# Altium integrated library Altera FLEX 10K.IntLib: 292 symbols (part 6 of 37)
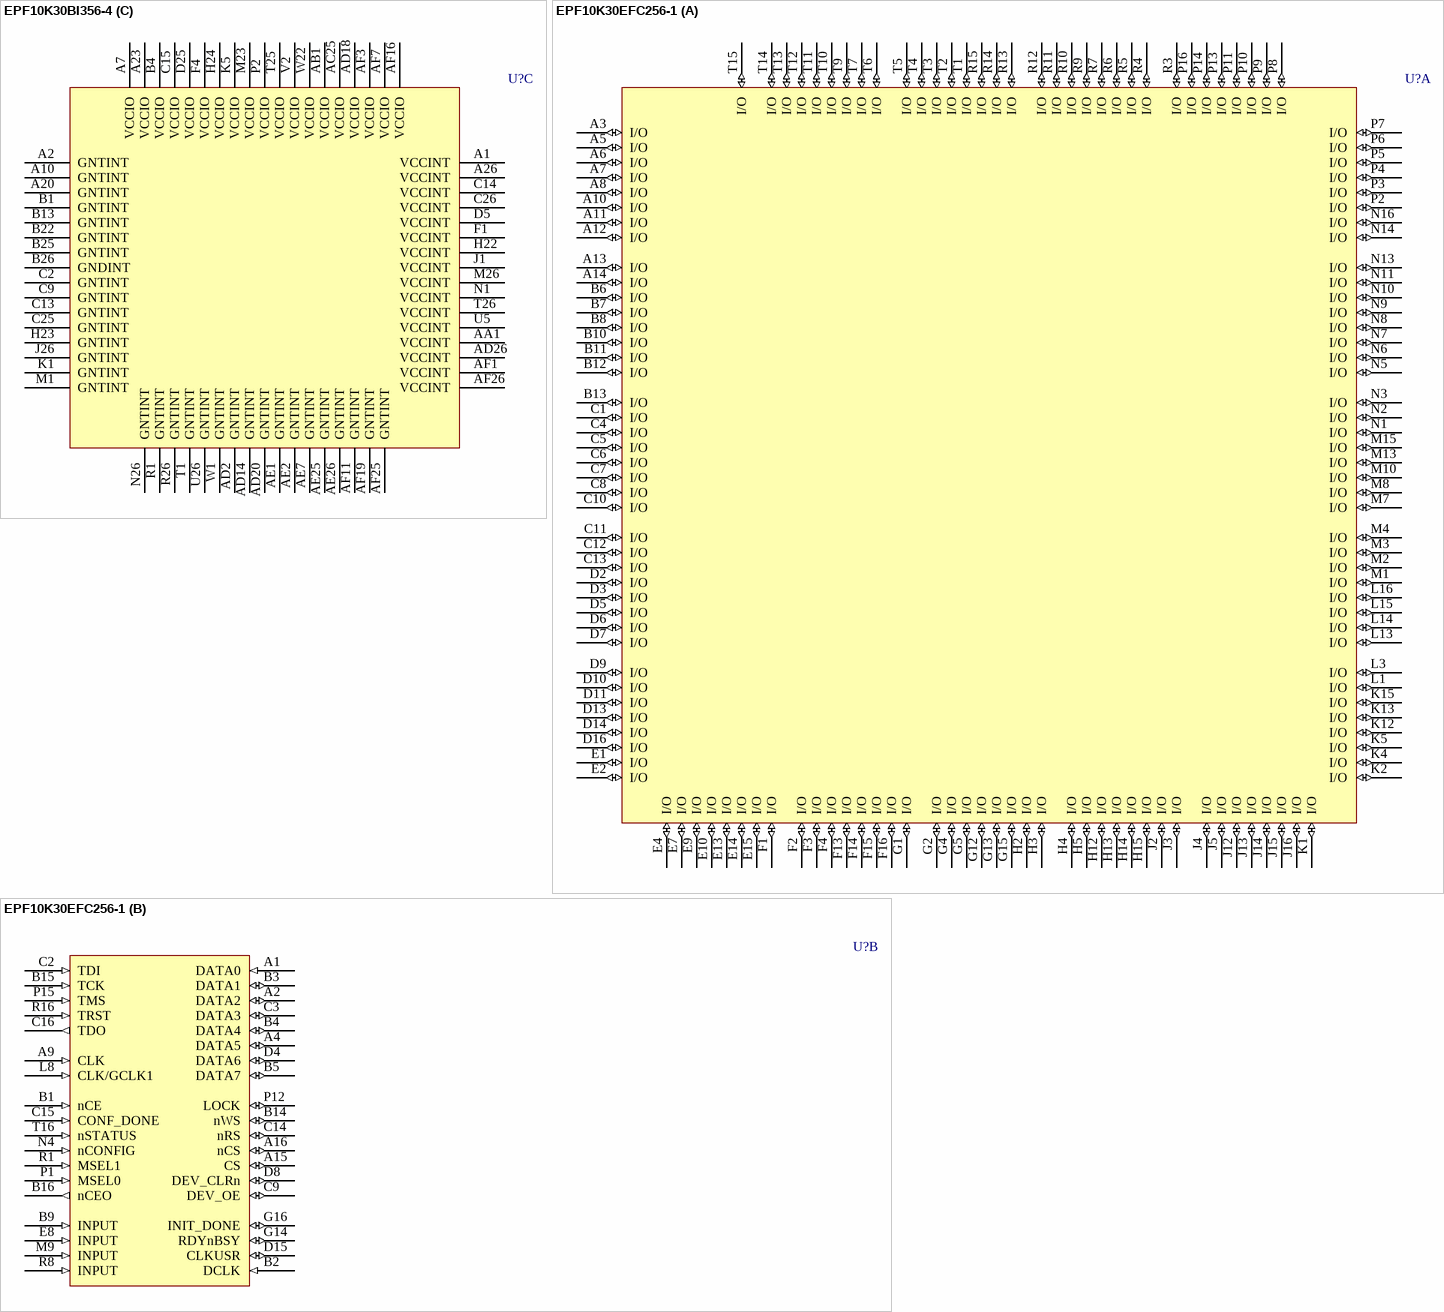
[diagram p404: symbols EPF10K30BI356-4 to EPF10K30EFC256-1]

## EPF10K30BI356-4
designator U?
FLEX EPF10K30 5.0V Embedded PLD, 246 User IO Pins, 356-Pin BGA, Speed Grade 4, Industrial Grade; Published: 24-Nov-2000; LatestRevisionDate: 13-Apr-2006; LatestRevisionNote: IPC-7351 Footprint Added.; DatasheetVersion: Jun-1996; PackageVersion: ver14.2, Oct-2005; PackageReference: BGA356; Publisher: Altium Limited; PackageDescription: 356-Ball Ball Grid Array (BGA356); Code_JEDEC: MO-192-BAR-2; ComponentLink1Description: Manufacturer Link; ComponentLink1URL: http://www.altera.com/products/devices/flex10k/f10-index.html; ComponentLink2Description: Datasheet; ComponentLink2URL: http://www.altera.com/literature/ds/dsf10k.pdf
footprint BGA356 (BGA, 356-Leads, Body 35x35mm, Pitch 1.27mm)
3D model EPF10K30-BGA356 (356-Ball Ball Grid Array (BGA356))
part A pins: A13 IN (in), A14 CLK (in), AA24 CLKUSR (io), AC2 nCE (in), AC3 TDI (in), AC5 DCLK (in), AC22 nCEO (out), AC23 TDO (out), AC24 CONF_DONE (in), AC26 NC, AD3 DATA0 (in), AD4 DATA1 (io), AD5 DATA2 (io), AD6 DATA4 (io), AD8 DATA6 (io), AD13 DEV_CLRn (io), AD23 CS (io), AD24 nCS (io), AD25 TCK (in), AE5 DATA5 (io), AE13 IN (in), AE14 DEV_OE (io), AE23 nRS (io), AE24 nWS (io), AF2 DATA3 (io), AF4 DATA7 (io), AF13 CLK (in), AF14 IN (in), B14 IN (in), C1 NC, D1 NC, D2 nCONFIG (in), D3 MSEL1 (in), D4 MSEL0 (in), D22 TMS (in), D23 TRST (in), D24 nSTATUS (in), D26 NC, E1 NC, E2 NC, G1 NC, G5 NC, G23 NC, G26 NC, H1 NC, H25 NC, H26 NC, J25 NC, K25 NC, P24 NC, R24 NC, T23 NC, T24 INIT_DONE (io), U22 RDYnBUSY (io), U25 NC, V1 NC, V3 NC, V4 NC, V26 NC, W2 NC, W3 NC, Y1 NC, Y2 NC, Y23 NC
part B pins: A3 I/O (io), A4 I/O (io), A5 I/O (io), A6 I/O (io), A8 I/O (io), A9 I/O (io), A11 I/O (io), A12 I/O (io), A15 I/O (io), A16 I/O (io), A17 I/O (io), A18 I/O (io), A19 I/O (io), A21 I/O (io), A22 I/O (io), A24 I/O (io), A25 I/O (io), AA2 I/O (io), AA3 I/O (io), AA4 I/O (io), AA5 I/O (io), AA22 I/O (io), AA23 I/O (io), AA25 I/O (io), AA26 I/O (io), AB2 I/O (io), AB3 I/O (io), AB4 I/O (io), AB5 I/O (io), AB22 I/O (io), AB23 I/O (io), AB24 I/O (io), AB25 I/O (io), AB26 I/O (io), AC1 I/O (io), AC4 I/O (io), AD1 I/O (io), AD7 I/O (io), AD9 I/O (io), AD10 I/O (io), AD11 I/O (io), AD12 I/O (io), AD15 I/O (io), AD16 I/O (io), AD17 I/O (io), AD19 I/O (io), AD21 I/O (io), AD22 I/O (io), AE3 I/O (io), AE4 I/O (io), AE6 I/O (io), AE8 I/O (io), AE9 I/O (io), AE10 I/O (io), AE11 I/O (io), AE12 I/O (io), AE15 I/O (io), AE16 I/O (io), AE17 I/O (io), AE18 I/O (io), AE19 I/O (io), AE20 I/O (io), AE21 I/O (io), AE22 I/O (io), AF5 I/O (io), AF6 I/O (io), AF8 I/O (io), AF9 I/O (io), AF10 I/O (io), AF12 I/O (io), AF15 I/O (io), AF17 I/O (io), AF18 I/O (io), AF20 I/O (io), AF21 I/O (io), AF22 I/O (io), AF23 I/O (io), AF24 I/O (io), B2 I/O (io), B3 I/O (io), B5 I/O (io), B6 I/O (io), B7 I/O (io), B8 I/O (io), B9 I/O (io), B10 I/O (io), B11 I/O (io), B12 I/O (io), B15 I/O (io), B16 I/O (io), B17 I/O (io), B18 I/O (io), B19 I/O (io), B20 I/O (io), B21 I/O (io), B23 I/O (io), B24 I/O (io), C3 I/O (io), C4 I/O (io), C5 I/O (io), C6 I/O (io), C7 I/O (io), C8 I/O (io), C10 I/O (io), C11 I/O (io), C12 I/O (io), C16 I/O (io), C17 I/O (io), C18 I/O (io), C19 I/O (io), C20 I/O (io), C21 I/O (io), C22 I/O (io), C23 I/O (io), C24 I/O (io), E3 I/O (io), E4 I/O (io), E5 I/O (io), E22 I/O (io), E23 I/O (io), E24 I/O (io), E25 I/O (io), E26 I/O (io), F2 I/O (io), F3 I/O (io), F5 I/O (io), F22 I/O (io), F23 I/O (io), F24 I/O (io), F25 I/O (io), F26 I/O (io), G2 I/O (io), G3 I/O (io), G4 I/O (io), G22 I/O (io), G24 I/O (io), G25 I/O (io), H2 I/O (io), H3 I/O (io), H4 I/O (io), H5 I/O (io), J2 I/O (io), J3 I/O (io), J4 I/O (io), J5 I/O (io), J22 I/O (io), J23 I/O (io), J24 I/O (io), K2 I/O (io), K3 I/O (io), K4 I/O (io), K22 I/O (io), K23 I/O (io), K24 I/O (io), K26 I/O (io), L1 I/O (io), L2 I/O (io), L3 I/O (io), L4 I/O (io), L5 I/O (io), L22 I/O (io), L23 I/O (io), L24 I/O (io), L25 I/O (io), L26 I/O (io), M2 I/O (io), M3 I/O (io), M4 I/O (io), M5 I/O (io), M22 I/O (io), M24 I/O (io), M25 I/O (io), N2 I/O (io), N3 I/O (io), N4 I/O (io), N5 I/O (io), N22 I/O (io), N23 I/O (io), N24 I/O (io), N25 I/O (io), P1 I/O (io), P3 I/O (io), P4 I/O (io), P5 I/O (io), P22 I/O (io), P23 I/O (io), P25 I/O (io), P26 I/O (io), R2 I/O (io), R3 I/O (io), R4 I/O (io), R5 I/O (io), R22 I/O (io), R23 I/O (io), R25 I/O (io), T2 I/O (io), T3 I/O (io), T4 I/O (io), T5 I/O (io), T22 I/O (io), U1 I/O (io), U2 I/O (io), U3 I/O (io), U4 I/O (io), U23 I/O (io), U24 I/O (io), V5 I/O (io), V22 I/O (io), V23 I/O (io), V24 I/O (io), V25 I/O (io), W4 I/O (io), W5 I/O (io), W23 I/O (io), W24 I/O (io), W25 I/O (io), W26 I/O (io), Y3 I/O (io), Y4 I/O (io), Y5 I/O (io), Y22 I/O (io), Y24 I/O (io), Y25 I/O (io), Y26 I/O (io)
part C pins: A1 VCCINT (power), A2 GNTINT (power), A7 VCCIO (power), A10 GNTINT (power), A20 GNTINT (power), A23 VCCIO (power), A26 VCCINT (power), AA1 VCCINT (power), AB1 VCCIO (power), AC25 VCCIO (power), AD2 GNTINT (power), AD14 GNTINT (power), AD18 VCCIO (power), AD20 GNTINT (power), AD26 VCCINT (power), AE1 GNTINT (power), AE2 GNTINT (power), AE7 GNTINT (power), AE25 GNTINT (power), AE26 GNTINT (power), AF1 VCCINT (power), AF3 VCCIO (power), AF7 VCCIO (power), AF11 GNTINT (power), AF16 VCCIO (power), AF19 GNTINT (power), AF25 GNTINT (power), AF26 VCCINT (power), B1 GNTINT (power), B4 VCCIO (power), B13 GNTINT (power), B22 GNTINT (power), B25 GNTINT (power), B26 GNDINT (power), C2 GNTINT (power), C9 GNTINT (power), C13 GNTINT (power), C14 VCCINT (power), C15 VCCIO (power), C25 GNTINT (power), C26 VCCINT (power), D5 VCCINT (power), D25 VCCIO (power), F1 VCCINT (power), F4 VCCIO (power), H22 VCCINT (power), H23 GNTINT (power), H24 VCCIO (power), J1 VCCINT (power), J26 GNTINT (power), K1 GNTINT (power), K5 VCCIO (power), M1 GNTINT (power), M23 VCCIO (power), M26 VCCINT (power), N1 VCCINT (power), N26 GNTINT (power), P2 VCCIO (power), R1 GNTINT (power), R26 GNTINT (power), T1 GNTINT (power), T25 VCCIO (power), T26 VCCINT (power), U5 VCCINT (power), U26 GNTINT (power), V2 VCCIO (power), W1 GNTINT (power), W22 VCCIO (power)

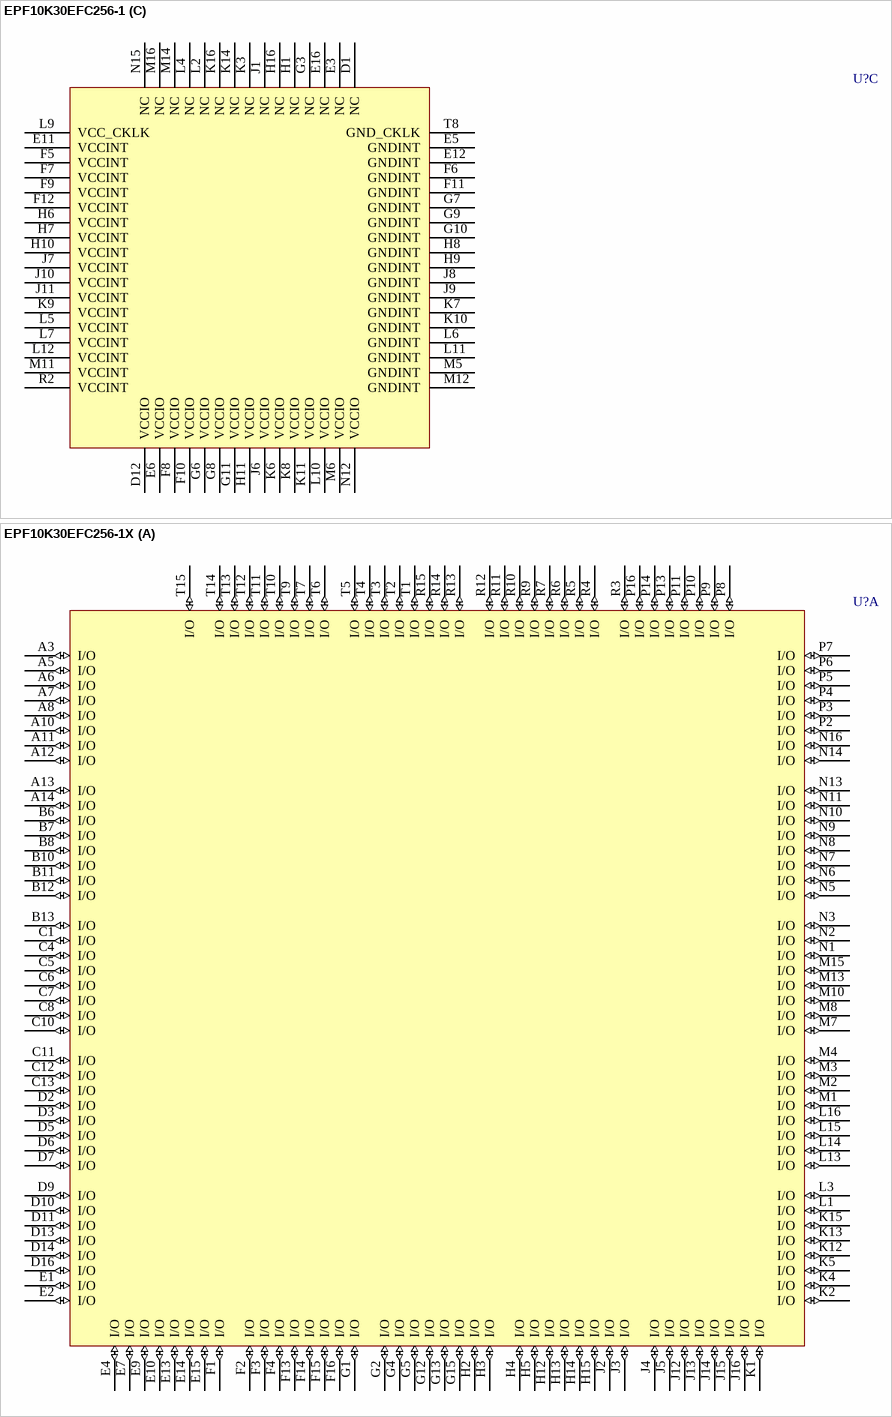
[diagram p53: symbols EPF10K30EFC256-1 to EPF10K30EFC256-1X]

## EPF10K30EFC256-1
designator U?
FLEX EPF10K30E 2.5V Embedded PLD, 176 User IO Pins, 256-Pin FBGA, Speed Grade 1, Commercial Grade; Published: 17-Jul-2002; LatestRevisionDate: 13-Apr-2006; LatestRevisionNote: IPC-7351 Footprint Added.; DatasheetVersion: ver2.5, Jan-2003; PackageVersion: ver16.0, Dec-2009; PackageReference: FBGA256; Publisher: Altium Limited; PackageDescription: 256-Ball FineLine Ball Grid Array (FBGA256) - Option 1 - Wire Bond; Code_JEDEC: MS-034-AAF-1; Code_IPC: BGA100P16X16-256; ComponentLink1Description: Manufacturer Link; ComponentLink1URL: http://www.altera.com/products/devices/flex10k/f10-index.html; ComponentLink2Description: Datasheet; ComponentLink2URL: http://www.altera.com/literature/ds/dsf10ke.pdf
footprint FBGA256 (BGA, 256-Leads, Body 17x17mm, Pitch 1mm)
3D model EPF10K30E-FBGA256 (256-Ball FineLine Ball Grid Array (FBGA256) - Option 1 - Wire Bond)
part A pins: A3 I/O (io), A5 I/O (io), A6 I/O (io), A7 I/O (io), A8 I/O (io), A10 I/O (io), A11 I/O (io), A12 I/O (io), A13 I/O (io), A14 I/O (io), B6 I/O (io), B7 I/O (io), B8 I/O (io), B10 I/O (io), B11 I/O (io), B12 I/O (io), B13 I/O (io), C1 I/O (io), C4 I/O (io), C5 I/O (io), C6 I/O (io), C7 I/O (io), C8 I/O (io), C10 I/O (io), C11 I/O (io), C12 I/O (io), C13 I/O (io), D2 I/O (io), D3 I/O (io), D5 I/O (io), D6 I/O (io), D7 I/O (io), D9 I/O (io), D10 I/O (io), D11 I/O (io), D13 I/O (io), D14 I/O (io), D16 I/O (io), E1 I/O (io), E2 I/O (io), E4 I/O (io), E7 I/O (io), E9 I/O (io), E10 I/O (io), E13 I/O (io), E14 I/O (io), E15 I/O (io), F1 I/O (io), F2 I/O (io), F3 I/O (io), F4 I/O (io), F13 I/O (io), F14 I/O (io), F15 I/O (io), F16 I/O (io), G1 I/O (io), G2 I/O (io), G4 I/O (io), G5 I/O (io), G12 I/O (io), G13 I/O (io), G15 I/O (io), H2 I/O (io), H3 I/O (io), H4 I/O (io), H5 I/O (io), H12 I/O (io), H13 I/O (io), H14 I/O (io), H15 I/O (io), J2 I/O (io), J3 I/O (io), J4 I/O (io), J5 I/O (io), J12 I/O (io), J13 I/O (io), J14 I/O (io), J15 I/O (io), J16 I/O (io), K1 I/O (io), K2 I/O (io), K4 I/O (io), K5 I/O (io), K12 I/O (io), K13 I/O (io), K15 I/O (io), L1 I/O (io), L3 I/O (io), L13 I/O (io), L14 I/O (io), L15 I/O (io), L16 I/O (io), M1 I/O (io), M2 I/O (io), M3 I/O (io), M4 I/O (io), M7 I/O (io), M8 I/O (io), M10 I/O (io), M13 I/O (io), M15 I/O (io), N1 I/O (io), N2 I/O (io), N3 I/O (io), N5 I/O (io), N6 I/O (io), N7 I/O (io), N8 I/O (io), N9 I/O (io), N10 I/O (io), N11 I/O (io), N13 I/O (io), N14 I/O (io), N16 I/O (io), P2 I/O (io), P3 I/O (io), P4 I/O (io), P5 I/O (io), P6 I/O (io), P7 I/O (io), P8 I/O (io), P9 I/O (io), P10 I/O (io), P11 I/O (io), P13 I/O (io), P14 I/O (io), P16 I/O (io), R3 I/O (io), R4 I/O (io), R5 I/O (io), R6 I/O (io), R7 I/O (io), R9 I/O (io), R10 I/O (io), R11 I/O (io), R12 I/O (io), R13 I/O (io), R14 I/O (io), R15 I/O (io), T1 I/O (io), T2 I/O (io), T3 I/O (io), T4 I/O (io), T5 I/O (io), T6 I/O (io), T7 I/O (io), T9 I/O (io), T10 I/O (io), T11 I/O (io), T12 I/O (io), T13 I/O (io), T14 I/O (io), T15 I/O (io)
part B pins: A1 DATA0 (in), A2 DATA2 (io), A4 DATA5 (io), A9 CLK (in), A15 CS (io), A16 nCS (io), B1 nCE (in), B2 DCLK (in), B3 DATA1 (io), B4 DATA4 (io), B5 DATA7 (io), B9 INPUT (in), B14 nWS (io), B15 TCK (in), B16 nCEO (out), C2 TDI (in), C3 DATA3 (io), C9 DEV_OE (io), C14 nRS (io), C15 CONF_DONE (in), C16 TDO (out), D4 DATA6 (io), D8 DEV_CLRn (io), D15 CLKUSR (io), E8 INPUT (in), G14 RDYnBSY (io), G16 INIT_DONE (io), L8 CLK/GCLK1 (in), M9 INPUT (in), N4 nCONFIG (in), P1 MSEL0 (in), P12 LOCK (io), P15 TMS (in), R1 MSEL1 (in), R8 INPUT (in), R16 TRST (in), T16 nSTATUS (in)
part C pins: D1 NC, D12 VCCIO (power), E3 NC, E5 GNDINT (power), E6 VCCIO (power), E11 VCCINT (power), E12 GNDINT (power), E16 NC, F5 VCCINT (power), F6 GNDINT (power), F7 VCCINT (power), F8 VCCIO (power), F9 VCCINT (power), F10 VCCIO (power), F11 GNDINT (power), F12 VCCINT (power), G3 NC, G6 VCCIO (power), G7 GNDINT (power), G8 VCCIO (power), G9 GNDINT (power), G10 GNDINT (power), G11 VCCIO (power), H1 NC, H6 VCCINT (power), H7 VCCINT (power), H8 GNDINT (power), H9 GNDINT (power), H10 VCCINT (power), H11 VCCIO (power), H16 NC, J1 NC, J6 VCCIO (power), J7 VCCINT (power), J8 GNDINT (power), J9 GNDINT (power), J10 VCCINT (power), J11 VCCINT (power), K3 NC, K6 VCCIO (power), K7 GNDINT (power), K8 VCCIO (power), K9 VCCINT (power), K10 GNDINT (power), K11 VCCIO (power), K14 NC, K16 NC, L2 NC, L4 NC, L5 VCCINT (power), L6 GNDINT (power), L7 VCCINT (power), L9 VCC_CKLK (power), L10 VCCIO (power), L11 GNDINT (power), L12 VCCINT (power), M5 GNDINT (power), M6 VCCIO (power), M11 VCCINT (power), M12 GNDINT (power), M14 NC, M16 NC, N12 VCCIO (power), N15 NC, R2 VCCINT (power), T8 GND_CKLK (power)

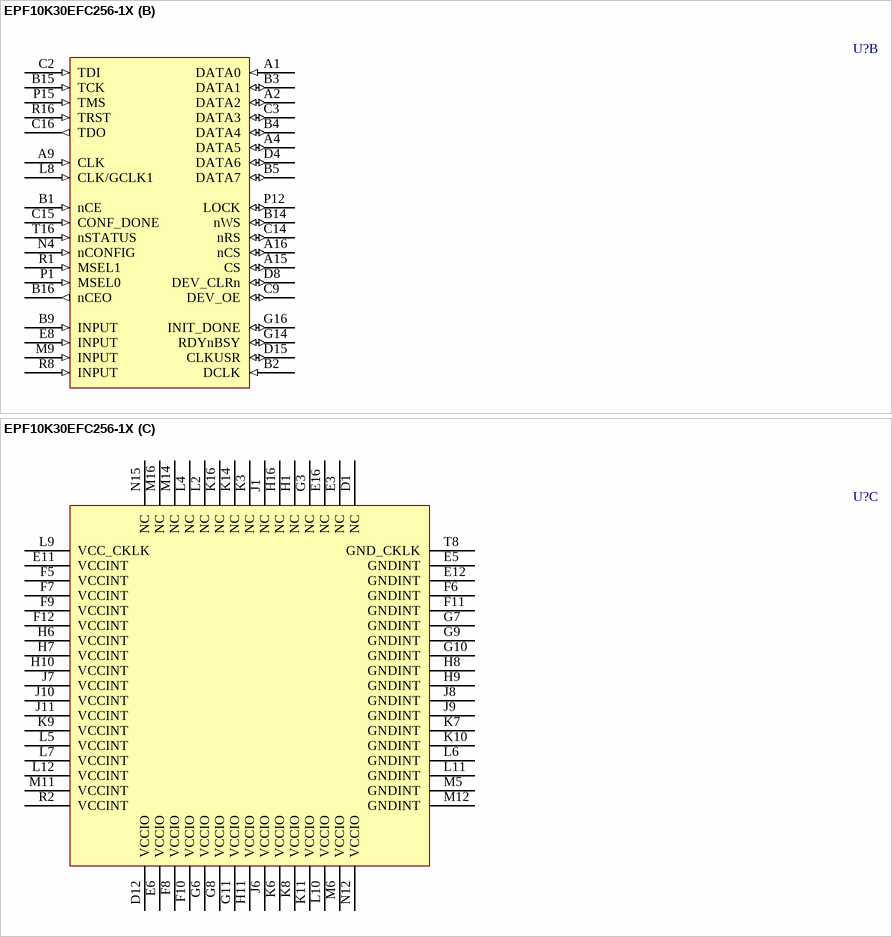
[diagram p54: symbol EPF10K30EFC256-1X]

## EPF10K30EFC256-1X
designator U?
FLEX EPF10K30E 2.5V Embedded PLD, 176 User IO Pins, 256-Pin FBGA, Speed Grade 1, Commercial Grade; Published: 17-Jul-2002; LatestRevisionDate: 13-Apr-2006; LatestRevisionNote: IPC-7351 Footprint Added.; DatasheetVersion: ver2.5, Jan-2003; PackageVersion: ver16.0, Dec-2009; PackageReference: FBGA256; Publisher: Altium Limited; PackageDescription: 256-Ball FineLine Ball Grid Array (FBGA256) - Option 1 - Wire Bond; Code_JEDEC: MS-034-AAF-1; Code_IPC: BGA100P16X16-256; ComponentLink1Description: Manufacturer Link; ComponentLink1URL: http://www.altera.com/products/devices/flex10k/f10-index.html; ComponentLink2Description: Datasheet; ComponentLink2URL: http://www.altera.com/literature/ds/dsf10ke.pdf
footprint FBGA256 (BGA, 256-Leads, Body 17x17mm, Pitch 1mm)
3D model EPF10K30E-FBGA256 (256-Ball FineLine Ball Grid Array (FBGA256) - Option 1 - Wire Bond)
part A pins: A3 I/O (io), A5 I/O (io), A6 I/O (io), A7 I/O (io), A8 I/O (io), A10 I/O (io), A11 I/O (io), A12 I/O (io), A13 I/O (io), A14 I/O (io), B6 I/O (io), B7 I/O (io), B8 I/O (io), B10 I/O (io), B11 I/O (io), B12 I/O (io), B13 I/O (io), C1 I/O (io), C4 I/O (io), C5 I/O (io), C6 I/O (io), C7 I/O (io), C8 I/O (io), C10 I/O (io), C11 I/O (io), C12 I/O (io), C13 I/O (io), D2 I/O (io), D3 I/O (io), D5 I/O (io), D6 I/O (io), D7 I/O (io), D9 I/O (io), D10 I/O (io), D11 I/O (io), D13 I/O (io), D14 I/O (io), D16 I/O (io), E1 I/O (io), E2 I/O (io), E4 I/O (io), E7 I/O (io), E9 I/O (io), E10 I/O (io), E13 I/O (io), E14 I/O (io), E15 I/O (io), F1 I/O (io), F2 I/O (io), F3 I/O (io), F4 I/O (io), F13 I/O (io), F14 I/O (io), F15 I/O (io), F16 I/O (io), G1 I/O (io), G2 I/O (io), G4 I/O (io), G5 I/O (io), G12 I/O (io), G13 I/O (io), G15 I/O (io), H2 I/O (io), H3 I/O (io), H4 I/O (io), H5 I/O (io), H12 I/O (io), H13 I/O (io), H14 I/O (io), H15 I/O (io), J2 I/O (io), J3 I/O (io), J4 I/O (io), J5 I/O (io), J12 I/O (io), J13 I/O (io), J14 I/O (io), J15 I/O (io), J16 I/O (io), K1 I/O (io), K2 I/O (io), K4 I/O (io), K5 I/O (io), K12 I/O (io), K13 I/O (io), K15 I/O (io), L1 I/O (io), L3 I/O (io), L13 I/O (io), L14 I/O (io), L15 I/O (io), L16 I/O (io), M1 I/O (io), M2 I/O (io), M3 I/O (io), M4 I/O (io), M7 I/O (io), M8 I/O (io), M10 I/O (io), M13 I/O (io), M15 I/O (io), N1 I/O (io), N2 I/O (io), N3 I/O (io), N5 I/O (io), N6 I/O (io), N7 I/O (io), N8 I/O (io), N9 I/O (io), N10 I/O (io), N11 I/O (io), N13 I/O (io), N14 I/O (io), N16 I/O (io), P2 I/O (io), P3 I/O (io), P4 I/O (io), P5 I/O (io), P6 I/O (io), P7 I/O (io), P8 I/O (io), P9 I/O (io), P10 I/O (io), P11 I/O (io), P13 I/O (io), P14 I/O (io), P16 I/O (io), R3 I/O (io), R4 I/O (io), R5 I/O (io), R6 I/O (io), R7 I/O (io), R9 I/O (io), R10 I/O (io), R11 I/O (io), R12 I/O (io), R13 I/O (io), R14 I/O (io), R15 I/O (io), T1 I/O (io), T2 I/O (io), T3 I/O (io), T4 I/O (io), T5 I/O (io), T6 I/O (io), T7 I/O (io), T9 I/O (io), T10 I/O (io), T11 I/O (io), T12 I/O (io), T13 I/O (io), T14 I/O (io), T15 I/O (io)
part B pins: A1 DATA0 (in), A2 DATA2 (io), A4 DATA5 (io), A9 CLK (in), A15 CS (io), A16 nCS (io), B1 nCE (in), B2 DCLK (in), B3 DATA1 (io), B4 DATA4 (io), B5 DATA7 (io), B9 INPUT (in), B14 nWS (io), B15 TCK (in), B16 nCEO (out), C2 TDI (in), C3 DATA3 (io), C9 DEV_OE (io), C14 nRS (io), C15 CONF_DONE (in), C16 TDO (out), D4 DATA6 (io), D8 DEV_CLRn (io), D15 CLKUSR (io), E8 INPUT (in), G14 RDYnBSY (io), G16 INIT_DONE (io), L8 CLK/GCLK1 (in), M9 INPUT (in), N4 nCONFIG (in), P1 MSEL0 (in), P12 LOCK (io), P15 TMS (in), R1 MSEL1 (in), R8 INPUT (in), R16 TRST (in), T16 nSTATUS (in)
part C pins: D1 NC, D12 VCCIO (power), E3 NC, E5 GNDINT (power), E6 VCCIO (power), E11 VCCINT (power), E12 GNDINT (power), E16 NC, F5 VCCINT (power), F6 GNDINT (power), F7 VCCINT (power), F8 VCCIO (power), F9 VCCINT (power), F10 VCCIO (power), F11 GNDINT (power), F12 VCCINT (power), G3 NC, G6 VCCIO (power), G7 GNDINT (power), G8 VCCIO (power), G9 GNDINT (power), G10 GNDINT (power), G11 VCCIO (power), H1 NC, H6 VCCINT (power), H7 VCCINT (power), H8 GNDINT (power), H9 GNDINT (power), H10 VCCINT (power), H11 VCCIO (power), H16 NC, J1 NC, J6 VCCIO (power), J7 VCCINT (power), J8 GNDINT (power), J9 GNDINT (power), J10 VCCINT (power), J11 VCCINT (power), K3 NC, K6 VCCIO (power), K7 GNDINT (power), K8 VCCIO (power), K9 VCCINT (power), K10 GNDINT (power), K11 VCCIO (power), K14 NC, K16 NC, L2 NC, L4 NC, L5 VCCINT (power), L6 GNDINT (power), L7 VCCINT (power), L9 VCC_CKLK (power), L10 VCCIO (power), L11 GNDINT (power), L12 VCCINT (power), M5 GNDINT (power), M6 VCCIO (power), M11 VCCINT (power), M12 GNDINT (power), M14 NC, M16 NC, N12 VCCIO (power), N15 NC, R2 VCCINT (power), T8 GND_CKLK (power)

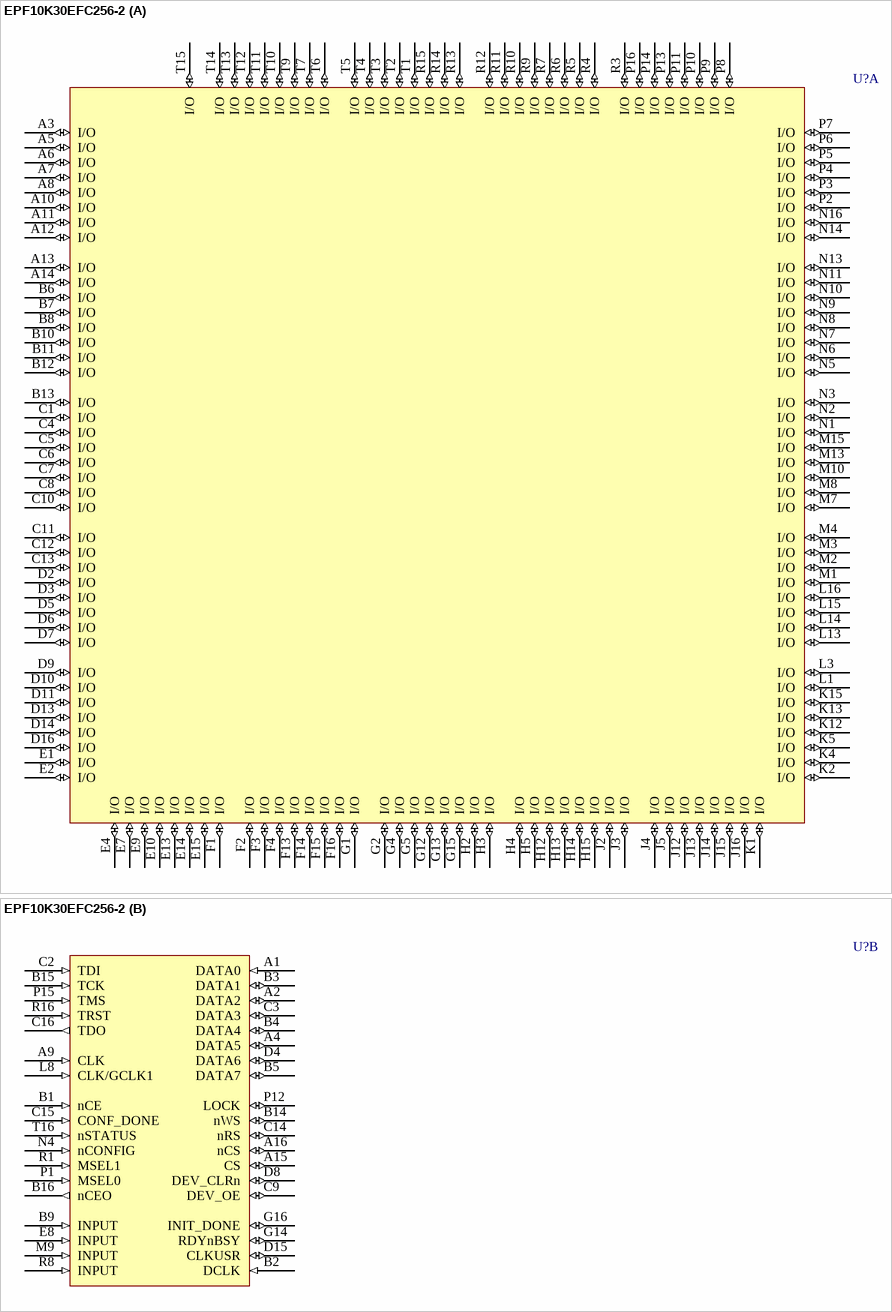
[diagram p55: symbol EPF10K30EFC256-2]

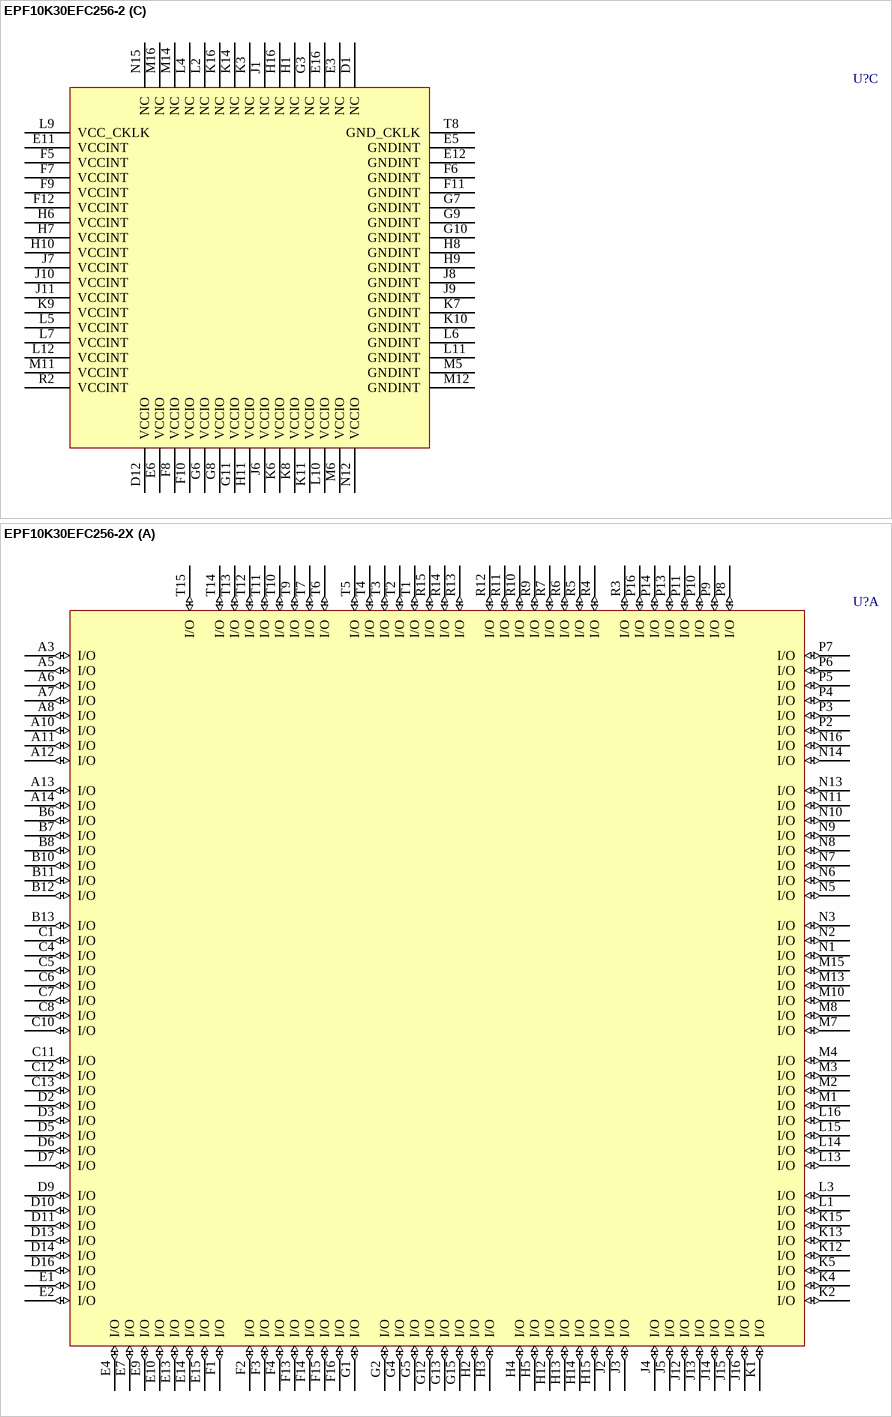
[diagram p56: symbols EPF10K30EFC256-2 to EPF10K30EFC256-2X]

## EPF10K30EFC256-2
designator U?
FLEX EPF10K30E 2.5V Embedded PLD, 176 User IO Pins, 256-Pin FBGA, Speed Grade 2, Commercial Grade; Published: 17-Jul-2002; LatestRevisionDate: 13-Apr-2006; LatestRevisionNote: IPC-7351 Footprint Added.; DatasheetVersion: ver2.5, Jan-2003; PackageVersion: ver16.0, Dec-2009; PackageReference: FBGA256; Publisher: Altium Limited; PackageDescription: 256-Ball FineLine Ball Grid Array (FBGA256) - Option 1 - Wire Bond; Code_JEDEC: MS-034-AAF-1; Code_IPC: BGA100P16X16-256; ComponentLink1Description: Manufacturer Link; ComponentLink1URL: http://www.altera.com/products/devices/flex10k/f10-index.html; ComponentLink2Description: Datasheet; ComponentLink2URL: http://www.altera.com/literature/ds/dsf10ke.pdf
footprint FBGA256 (BGA, 256-Leads, Body 17x17mm, Pitch 1mm)
3D model EPF10K30E-FBGA256 (256-Ball FineLine Ball Grid Array (FBGA256) - Option 1 - Wire Bond)
part A pins: A3 I/O (io), A5 I/O (io), A6 I/O (io), A7 I/O (io), A8 I/O (io), A10 I/O (io), A11 I/O (io), A12 I/O (io), A13 I/O (io), A14 I/O (io), B6 I/O (io), B7 I/O (io), B8 I/O (io), B10 I/O (io), B11 I/O (io), B12 I/O (io), B13 I/O (io), C1 I/O (io), C4 I/O (io), C5 I/O (io), C6 I/O (io), C7 I/O (io), C8 I/O (io), C10 I/O (io), C11 I/O (io), C12 I/O (io), C13 I/O (io), D2 I/O (io), D3 I/O (io), D5 I/O (io), D6 I/O (io), D7 I/O (io), D9 I/O (io), D10 I/O (io), D11 I/O (io), D13 I/O (io), D14 I/O (io), D16 I/O (io), E1 I/O (io), E2 I/O (io), E4 I/O (io), E7 I/O (io), E9 I/O (io), E10 I/O (io), E13 I/O (io), E14 I/O (io), E15 I/O (io), F1 I/O (io), F2 I/O (io), F3 I/O (io), F4 I/O (io), F13 I/O (io), F14 I/O (io), F15 I/O (io), F16 I/O (io), G1 I/O (io), G2 I/O (io), G4 I/O (io), G5 I/O (io), G12 I/O (io), G13 I/O (io), G15 I/O (io), H2 I/O (io), H3 I/O (io), H4 I/O (io), H5 I/O (io), H12 I/O (io), H13 I/O (io), H14 I/O (io), H15 I/O (io), J2 I/O (io), J3 I/O (io), J4 I/O (io), J5 I/O (io), J12 I/O (io), J13 I/O (io), J14 I/O (io), J15 I/O (io), J16 I/O (io), K1 I/O (io), K2 I/O (io), K4 I/O (io), K5 I/O (io), K12 I/O (io), K13 I/O (io), K15 I/O (io), L1 I/O (io), L3 I/O (io), L13 I/O (io), L14 I/O (io), L15 I/O (io), L16 I/O (io), M1 I/O (io), M2 I/O (io), M3 I/O (io), M4 I/O (io), M7 I/O (io), M8 I/O (io), M10 I/O (io), M13 I/O (io), M15 I/O (io), N1 I/O (io), N2 I/O (io), N3 I/O (io), N5 I/O (io), N6 I/O (io), N7 I/O (io), N8 I/O (io), N9 I/O (io), N10 I/O (io), N11 I/O (io), N13 I/O (io), N14 I/O (io), N16 I/O (io), P2 I/O (io), P3 I/O (io), P4 I/O (io), P5 I/O (io), P6 I/O (io), P7 I/O (io), P8 I/O (io), P9 I/O (io), P10 I/O (io), P11 I/O (io), P13 I/O (io), P14 I/O (io), P16 I/O (io), R3 I/O (io), R4 I/O (io), R5 I/O (io), R6 I/O (io), R7 I/O (io), R9 I/O (io), R10 I/O (io), R11 I/O (io), R12 I/O (io), R13 I/O (io), R14 I/O (io), R15 I/O (io), T1 I/O (io), T2 I/O (io), T3 I/O (io), T4 I/O (io), T5 I/O (io), T6 I/O (io), T7 I/O (io), T9 I/O (io), T10 I/O (io), T11 I/O (io), T12 I/O (io), T13 I/O (io), T14 I/O (io), T15 I/O (io)
part B pins: A1 DATA0 (in), A2 DATA2 (io), A4 DATA5 (io), A9 CLK (in), A15 CS (io), A16 nCS (io), B1 nCE (in), B2 DCLK (in), B3 DATA1 (io), B4 DATA4 (io), B5 DATA7 (io), B9 INPUT (in), B14 nWS (io), B15 TCK (in), B16 nCEO (out), C2 TDI (in), C3 DATA3 (io), C9 DEV_OE (io), C14 nRS (io), C15 CONF_DONE (in), C16 TDO (out), D4 DATA6 (io), D8 DEV_CLRn (io), D15 CLKUSR (io), E8 INPUT (in), G14 RDYnBSY (io), G16 INIT_DONE (io), L8 CLK/GCLK1 (in), M9 INPUT (in), N4 nCONFIG (in), P1 MSEL0 (in), P12 LOCK (io), P15 TMS (in), R1 MSEL1 (in), R8 INPUT (in), R16 TRST (in), T16 nSTATUS (in)
part C pins: D1 NC, D12 VCCIO (power), E3 NC, E5 GNDINT (power), E6 VCCIO (power), E11 VCCINT (power), E12 GNDINT (power), E16 NC, F5 VCCINT (power), F6 GNDINT (power), F7 VCCINT (power), F8 VCCIO (power), F9 VCCINT (power), F10 VCCIO (power), F11 GNDINT (power), F12 VCCINT (power), G3 NC, G6 VCCIO (power), G7 GNDINT (power), G8 VCCIO (power), G9 GNDINT (power), G10 GNDINT (power), G11 VCCIO (power), H1 NC, H6 VCCINT (power), H7 VCCINT (power), H8 GNDINT (power), H9 GNDINT (power), H10 VCCINT (power), H11 VCCIO (power), H16 NC, J1 NC, J6 VCCIO (power), J7 VCCINT (power), J8 GNDINT (power), J9 GNDINT (power), J10 VCCINT (power), J11 VCCINT (power), K3 NC, K6 VCCIO (power), K7 GNDINT (power), K8 VCCIO (power), K9 VCCINT (power), K10 GNDINT (power), K11 VCCIO (power), K14 NC, K16 NC, L2 NC, L4 NC, L5 VCCINT (power), L6 GNDINT (power), L7 VCCINT (power), L9 VCC_CKLK (power), L10 VCCIO (power), L11 GNDINT (power), L12 VCCINT (power), M5 GNDINT (power), M6 VCCIO (power), M11 VCCINT (power), M12 GNDINT (power), M14 NC, M16 NC, N12 VCCIO (power), N15 NC, R2 VCCINT (power), T8 GND_CKLK (power)

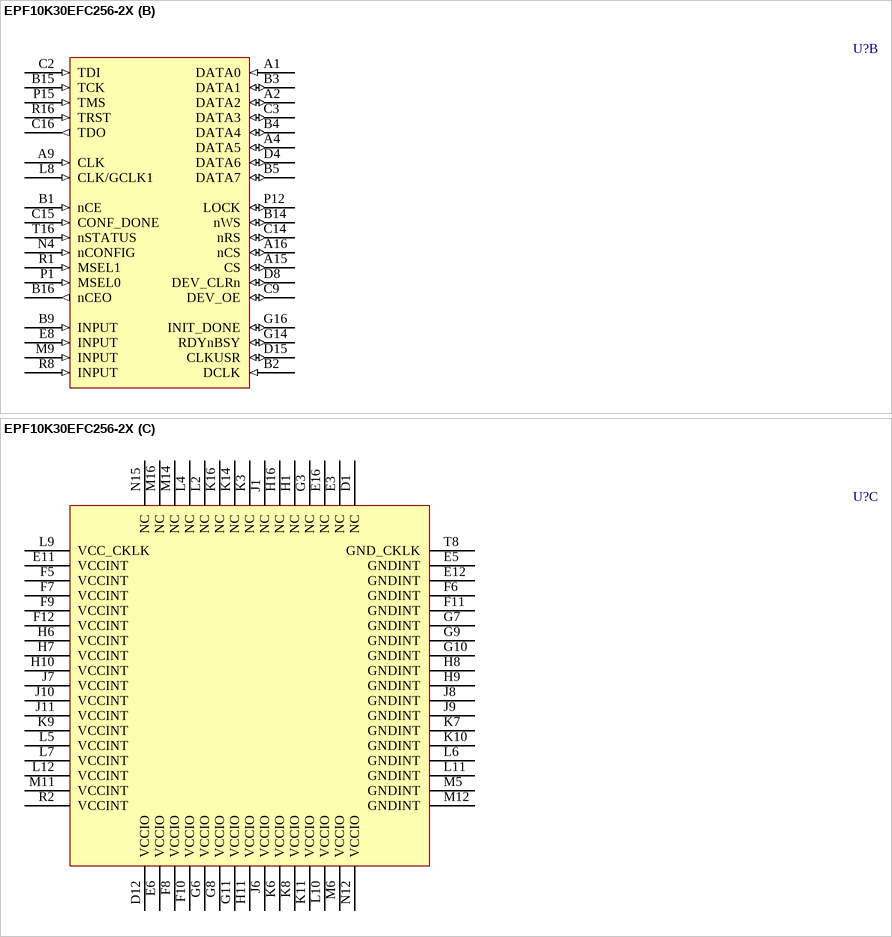
[diagram p57: symbol EPF10K30EFC256-2X]

## EPF10K30EFC256-2X
designator U?
FLEX EPF10K30E 2.5V Embedded PLD, 176 User IO Pins, 256-Pin FBGA, Speed Grade 2, Commercial Grade; Published: 17-Jul-2002; LatestRevisionDate: 13-Apr-2006; LatestRevisionNote: IPC-7351 Footprint Added.; DatasheetVersion: ver2.5, Jan-2003; PackageVersion: ver16.0, Dec-2009; PackageReference: FBGA256; Publisher: Altium Limited; PackageDescription: 256-Ball FineLine Ball Grid Array (FBGA256) - Option 1 - Wire Bond; Code_JEDEC: MS-034-AAF-1; Code_IPC: BGA100P16X16-256; ComponentLink1Description: Manufacturer Link; ComponentLink1URL: http://www.altera.com/products/devices/flex10k/f10-index.html; ComponentLink2Description: Datasheet; ComponentLink2URL: http://www.altera.com/literature/ds/dsf10ke.pdf
footprint FBGA256 (BGA, 256-Leads, Body 17x17mm, Pitch 1mm)
3D model EPF10K30E-FBGA256 (256-Ball FineLine Ball Grid Array (FBGA256) - Option 1 - Wire Bond)
part A pins: A3 I/O (io), A5 I/O (io), A6 I/O (io), A7 I/O (io), A8 I/O (io), A10 I/O (io), A11 I/O (io), A12 I/O (io), A13 I/O (io), A14 I/O (io), B6 I/O (io), B7 I/O (io), B8 I/O (io), B10 I/O (io), B11 I/O (io), B12 I/O (io), B13 I/O (io), C1 I/O (io), C4 I/O (io), C5 I/O (io), C6 I/O (io), C7 I/O (io), C8 I/O (io), C10 I/O (io), C11 I/O (io), C12 I/O (io), C13 I/O (io), D2 I/O (io), D3 I/O (io), D5 I/O (io), D6 I/O (io), D7 I/O (io), D9 I/O (io), D10 I/O (io), D11 I/O (io), D13 I/O (io), D14 I/O (io), D16 I/O (io), E1 I/O (io), E2 I/O (io), E4 I/O (io), E7 I/O (io), E9 I/O (io), E10 I/O (io), E13 I/O (io), E14 I/O (io), E15 I/O (io), F1 I/O (io), F2 I/O (io), F3 I/O (io), F4 I/O (io), F13 I/O (io), F14 I/O (io), F15 I/O (io), F16 I/O (io), G1 I/O (io), G2 I/O (io), G4 I/O (io), G5 I/O (io), G12 I/O (io), G13 I/O (io), G15 I/O (io), H2 I/O (io), H3 I/O (io), H4 I/O (io), H5 I/O (io), H12 I/O (io), H13 I/O (io), H14 I/O (io), H15 I/O (io), J2 I/O (io), J3 I/O (io), J4 I/O (io), J5 I/O (io), J12 I/O (io), J13 I/O (io), J14 I/O (io), J15 I/O (io), J16 I/O (io), K1 I/O (io), K2 I/O (io), K4 I/O (io), K5 I/O (io), K12 I/O (io), K13 I/O (io), K15 I/O (io), L1 I/O (io), L3 I/O (io), L13 I/O (io), L14 I/O (io), L15 I/O (io), L16 I/O (io), M1 I/O (io), M2 I/O (io), M3 I/O (io), M4 I/O (io), M7 I/O (io), M8 I/O (io), M10 I/O (io), M13 I/O (io), M15 I/O (io), N1 I/O (io), N2 I/O (io), N3 I/O (io), N5 I/O (io), N6 I/O (io), N7 I/O (io), N8 I/O (io), N9 I/O (io), N10 I/O (io), N11 I/O (io), N13 I/O (io), N14 I/O (io), N16 I/O (io), P2 I/O (io), P3 I/O (io), P4 I/O (io), P5 I/O (io), P6 I/O (io), P7 I/O (io), P8 I/O (io), P9 I/O (io), P10 I/O (io), P11 I/O (io), P13 I/O (io), P14 I/O (io), P16 I/O (io), R3 I/O (io), R4 I/O (io), R5 I/O (io), R6 I/O (io), R7 I/O (io), R9 I/O (io), R10 I/O (io), R11 I/O (io), R12 I/O (io), R13 I/O (io), R14 I/O (io), R15 I/O (io), T1 I/O (io), T2 I/O (io), T3 I/O (io), T4 I/O (io), T5 I/O (io), T6 I/O (io), T7 I/O (io), T9 I/O (io), T10 I/O (io), T11 I/O (io), T12 I/O (io), T13 I/O (io), T14 I/O (io), T15 I/O (io)
part B pins: A1 DATA0 (in), A2 DATA2 (io), A4 DATA5 (io), A9 CLK (in), A15 CS (io), A16 nCS (io), B1 nCE (in), B2 DCLK (in), B3 DATA1 (io), B4 DATA4 (io), B5 DATA7 (io), B9 INPUT (in), B14 nWS (io), B15 TCK (in), B16 nCEO (out), C2 TDI (in), C3 DATA3 (io), C9 DEV_OE (io), C14 nRS (io), C15 CONF_DONE (in), C16 TDO (out), D4 DATA6 (io), D8 DEV_CLRn (io), D15 CLKUSR (io), E8 INPUT (in), G14 RDYnBSY (io), G16 INIT_DONE (io), L8 CLK/GCLK1 (in), M9 INPUT (in), N4 nCONFIG (in), P1 MSEL0 (in), P12 LOCK (io), P15 TMS (in), R1 MSEL1 (in), R8 INPUT (in), R16 TRST (in), T16 nSTATUS (in)
part C pins: D1 NC, D12 VCCIO (power), E3 NC, E5 GNDINT (power), E6 VCCIO (power), E11 VCCINT (power), E12 GNDINT (power), E16 NC, F5 VCCINT (power), F6 GNDINT (power), F7 VCCINT (power), F8 VCCIO (power), F9 VCCINT (power), F10 VCCIO (power), F11 GNDINT (power), F12 VCCINT (power), G3 NC, G6 VCCIO (power), G7 GNDINT (power), G8 VCCIO (power), G9 GNDINT (power), G10 GNDINT (power), G11 VCCIO (power), H1 NC, H6 VCCINT (power), H7 VCCINT (power), H8 GNDINT (power), H9 GNDINT (power), H10 VCCINT (power), H11 VCCIO (power), H16 NC, J1 NC, J6 VCCIO (power), J7 VCCINT (power), J8 GNDINT (power), J9 GNDINT (power), J10 VCCINT (power), J11 VCCINT (power), K3 NC, K6 VCCIO (power), K7 GNDINT (power), K8 VCCIO (power), K9 VCCINT (power), K10 GNDINT (power), K11 VCCIO (power), K14 NC, K16 NC, L2 NC, L4 NC, L5 VCCINT (power), L6 GNDINT (power), L7 VCCINT (power), L9 VCC_CKLK (power), L10 VCCIO (power), L11 GNDINT (power), L12 VCCINT (power), M5 GNDINT (power), M6 VCCIO (power), M11 VCCINT (power), M12 GNDINT (power), M14 NC, M16 NC, N12 VCCIO (power), N15 NC, R2 VCCINT (power), T8 GND_CKLK (power)

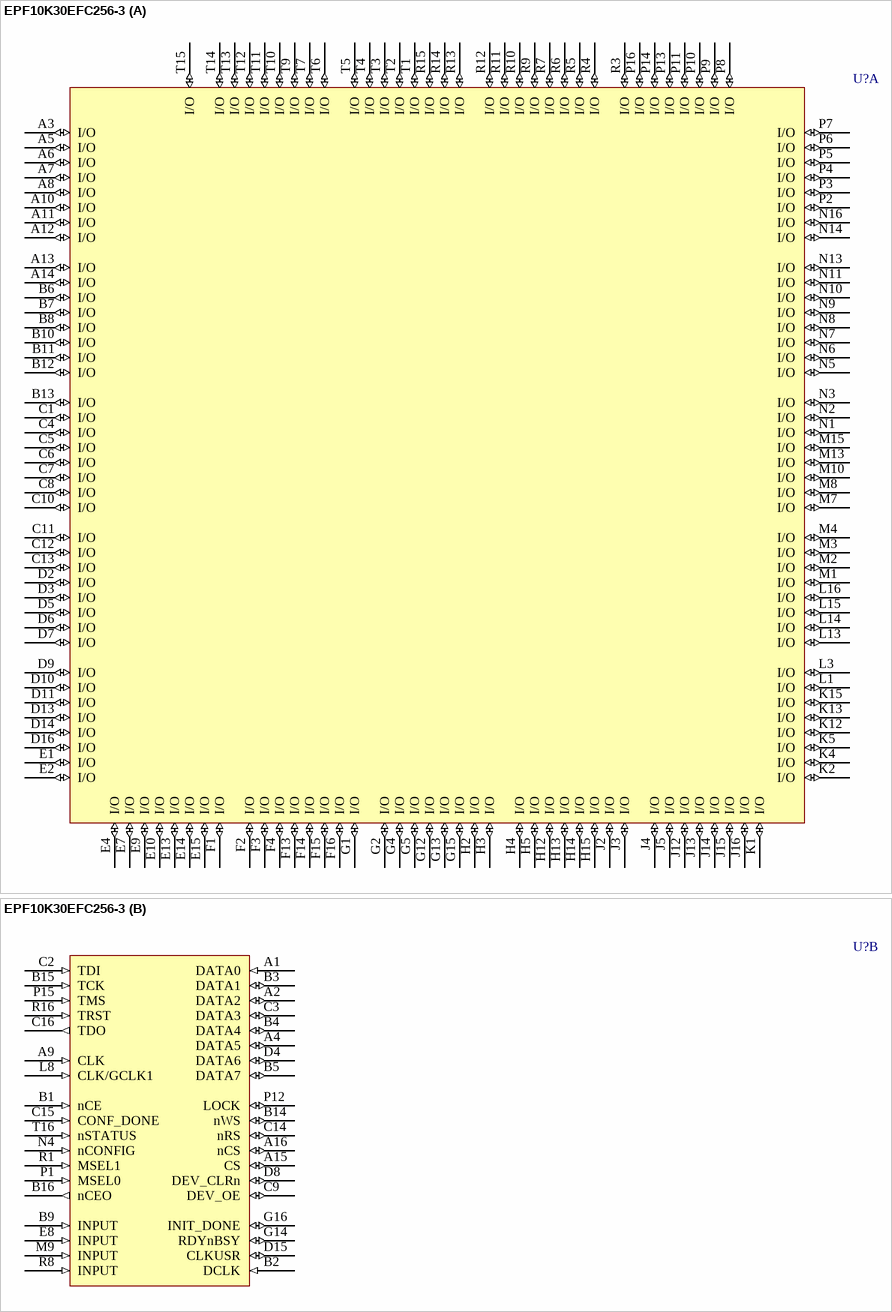
[diagram p58: symbol EPF10K30EFC256-3]

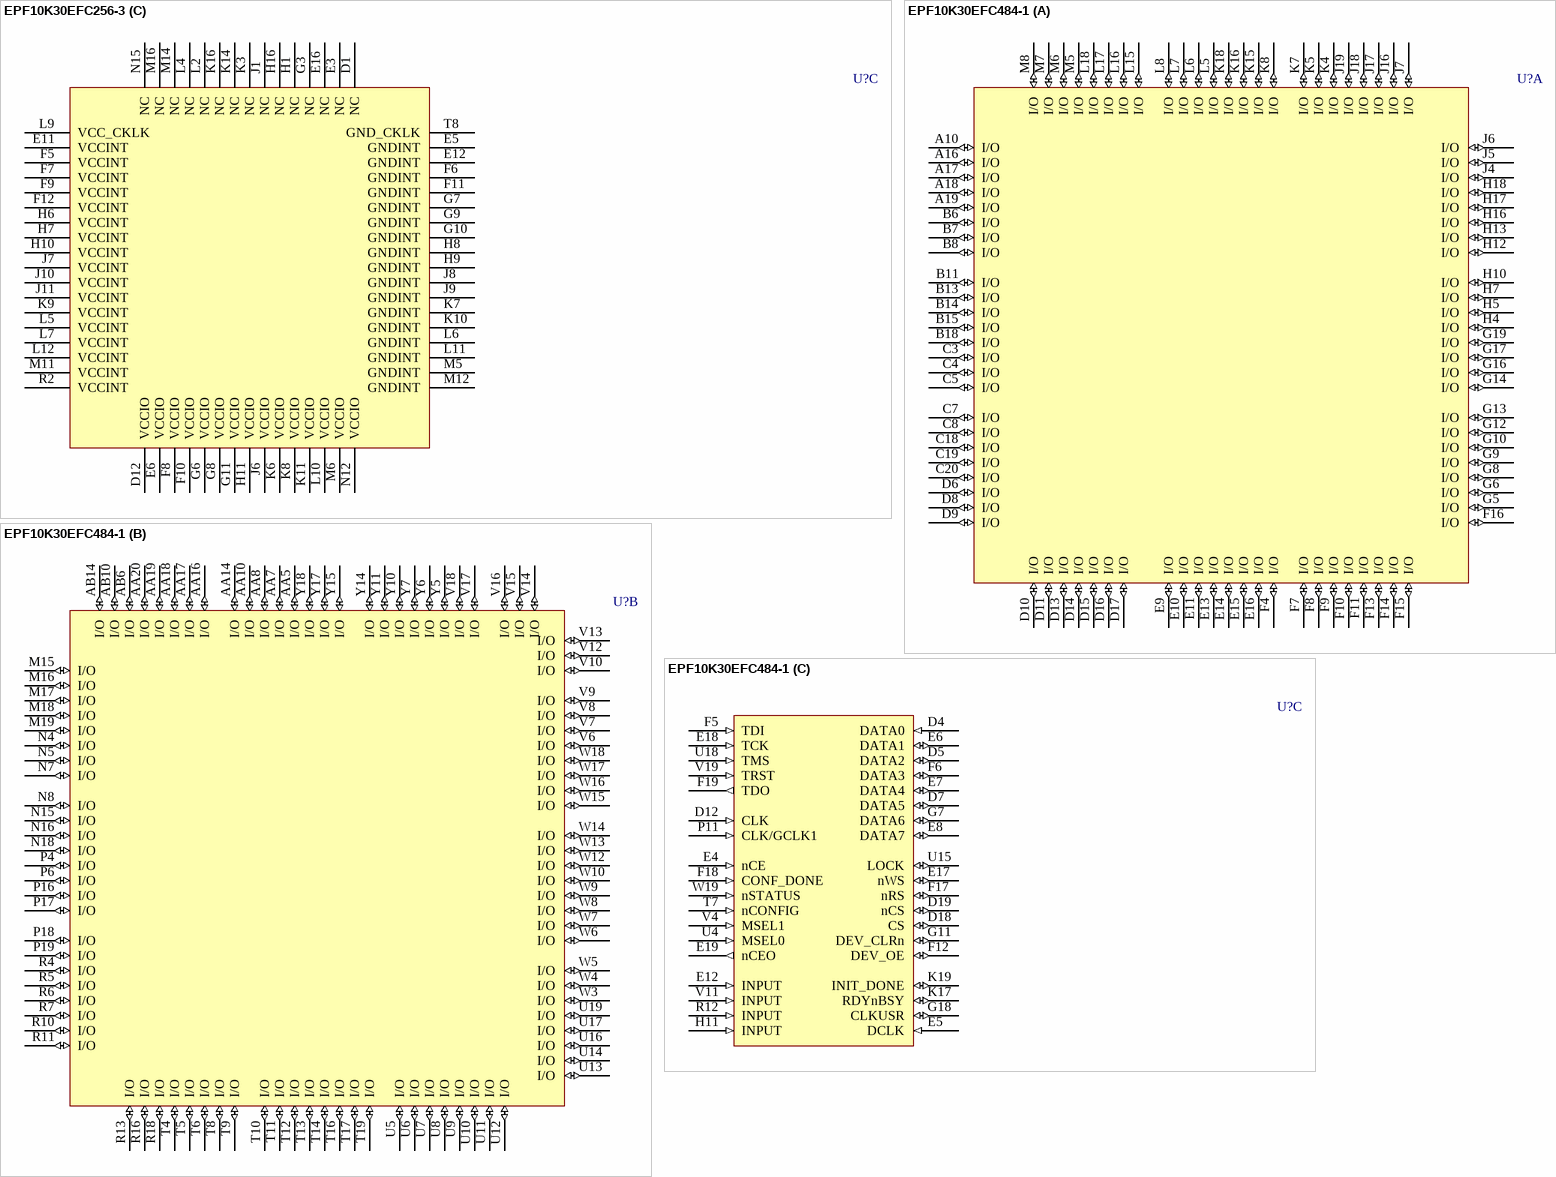
[diagram p59: symbols EPF10K30EFC256-3 to EPF10K30EFC484-1]

## EPF10K30EFC256-3
designator U?
FLEX EPF10K30E 2.5V Embedded PLD, 176 User IO Pins, 256-Pin FBGA, Speed Grade 3, Commercial Grade; Published: 17-Jul-2002; LatestRevisionDate: 13-Apr-2006; LatestRevisionNote: IPC-7351 Footprint Added.; DatasheetVersion: ver2.5, Jan-2003; PackageVersion: ver16.0, Dec-2009; PackageReference: FBGA256; Publisher: Altium Limited; PackageDescription: 256-Ball FineLine Ball Grid Array (FBGA256) - Option 1 - Wire Bond; Supplier 1: Digi-Key; Supplier Part Number 1: 544-2223-ND; Code_JEDEC: MS-034-AAF-1; Code_IPC: BGA100P16X16-256; ComponentLink1Description: Manufacturer Link; ComponentLink1URL: http://www.altera.com/products/devices/flex10k/f10-index.html; ComponentLink2Description: Datasheet; ComponentLink2URL: http://www.altera.com/literature/ds/dsf10ke.pdf
footprint FBGA256 (BGA, 256-Leads, Body 17x17mm, Pitch 1mm)
3D model EPF10K30E-FBGA256 (256-Ball FineLine Ball Grid Array (FBGA256) - Option 1 - Wire Bond)
part A pins: A3 I/O (io), A5 I/O (io), A6 I/O (io), A7 I/O (io), A8 I/O (io), A10 I/O (io), A11 I/O (io), A12 I/O (io), A13 I/O (io), A14 I/O (io), B6 I/O (io), B7 I/O (io), B8 I/O (io), B10 I/O (io), B11 I/O (io), B12 I/O (io), B13 I/O (io), C1 I/O (io), C4 I/O (io), C5 I/O (io), C6 I/O (io), C7 I/O (io), C8 I/O (io), C10 I/O (io), C11 I/O (io), C12 I/O (io), C13 I/O (io), D2 I/O (io), D3 I/O (io), D5 I/O (io), D6 I/O (io), D7 I/O (io), D9 I/O (io), D10 I/O (io), D11 I/O (io), D13 I/O (io), D14 I/O (io), D16 I/O (io), E1 I/O (io), E2 I/O (io), E4 I/O (io), E7 I/O (io), E9 I/O (io), E10 I/O (io), E13 I/O (io), E14 I/O (io), E15 I/O (io), F1 I/O (io), F2 I/O (io), F3 I/O (io), F4 I/O (io), F13 I/O (io), F14 I/O (io), F15 I/O (io), F16 I/O (io), G1 I/O (io), G2 I/O (io), G4 I/O (io), G5 I/O (io), G12 I/O (io), G13 I/O (io), G15 I/O (io), H2 I/O (io), H3 I/O (io), H4 I/O (io), H5 I/O (io), H12 I/O (io), H13 I/O (io), H14 I/O (io), H15 I/O (io), J2 I/O (io), J3 I/O (io), J4 I/O (io), J5 I/O (io), J12 I/O (io), J13 I/O (io), J14 I/O (io), J15 I/O (io), J16 I/O (io), K1 I/O (io), K2 I/O (io), K4 I/O (io), K5 I/O (io), K12 I/O (io), K13 I/O (io), K15 I/O (io), L1 I/O (io), L3 I/O (io), L13 I/O (io), L14 I/O (io), L15 I/O (io), L16 I/O (io), M1 I/O (io), M2 I/O (io), M3 I/O (io), M4 I/O (io), M7 I/O (io), M8 I/O (io), M10 I/O (io), M13 I/O (io), M15 I/O (io), N1 I/O (io), N2 I/O (io), N3 I/O (io), N5 I/O (io), N6 I/O (io), N7 I/O (io), N8 I/O (io), N9 I/O (io), N10 I/O (io), N11 I/O (io), N13 I/O (io), N14 I/O (io), N16 I/O (io), P2 I/O (io), P3 I/O (io), P4 I/O (io), P5 I/O (io), P6 I/O (io), P7 I/O (io), P8 I/O (io), P9 I/O (io), P10 I/O (io), P11 I/O (io), P13 I/O (io), P14 I/O (io), P16 I/O (io), R3 I/O (io), R4 I/O (io), R5 I/O (io), R6 I/O (io), R7 I/O (io), R9 I/O (io), R10 I/O (io), R11 I/O (io), R12 I/O (io), R13 I/O (io), R14 I/O (io), R15 I/O (io), T1 I/O (io), T2 I/O (io), T3 I/O (io), T4 I/O (io), T5 I/O (io), T6 I/O (io), T7 I/O (io), T9 I/O (io), T10 I/O (io), T11 I/O (io), T12 I/O (io), T13 I/O (io), T14 I/O (io), T15 I/O (io)
part B pins: A1 DATA0 (in), A2 DATA2 (io), A4 DATA5 (io), A9 CLK (in), A15 CS (io), A16 nCS (io), B1 nCE (in), B2 DCLK (in), B3 DATA1 (io), B4 DATA4 (io), B5 DATA7 (io), B9 INPUT (in), B14 nWS (io), B15 TCK (in), B16 nCEO (out), C2 TDI (in), C3 DATA3 (io), C9 DEV_OE (io), C14 nRS (io), C15 CONF_DONE (in), C16 TDO (out), D4 DATA6 (io), D8 DEV_CLRn (io), D15 CLKUSR (io), E8 INPUT (in), G14 RDYnBSY (io), G16 INIT_DONE (io), L8 CLK/GCLK1 (in), M9 INPUT (in), N4 nCONFIG (in), P1 MSEL0 (in), P12 LOCK (io), P15 TMS (in), R1 MSEL1 (in), R8 INPUT (in), R16 TRST (in), T16 nSTATUS (in)
part C pins: D1 NC, D12 VCCIO (power), E3 NC, E5 GNDINT (power), E6 VCCIO (power), E11 VCCINT (power), E12 GNDINT (power), E16 NC, F5 VCCINT (power), F6 GNDINT (power), F7 VCCINT (power), F8 VCCIO (power), F9 VCCINT (power), F10 VCCIO (power), F11 GNDINT (power), F12 VCCINT (power), G3 NC, G6 VCCIO (power), G7 GNDINT (power), G8 VCCIO (power), G9 GNDINT (power), G10 GNDINT (power), G11 VCCIO (power), H1 NC, H6 VCCINT (power), H7 VCCINT (power), H8 GNDINT (power), H9 GNDINT (power), H10 VCCINT (power), H11 VCCIO (power), H16 NC, J1 NC, J6 VCCIO (power), J7 VCCINT (power), J8 GNDINT (power), J9 GNDINT (power), J10 VCCINT (power), J11 VCCINT (power), K3 NC, K6 VCCIO (power), K7 GNDINT (power), K8 VCCIO (power), K9 VCCINT (power), K10 GNDINT (power), K11 VCCIO (power), K14 NC, K16 NC, L2 NC, L4 NC, L5 VCCINT (power), L6 GNDINT (power), L7 VCCINT (power), L9 VCC_CKLK (power), L10 VCCIO (power), L11 GNDINT (power), L12 VCCINT (power), M5 GNDINT (power), M6 VCCIO (power), M11 VCCINT (power), M12 GNDINT (power), M14 NC, M16 NC, N12 VCCIO (power), N15 NC, R2 VCCINT (power), T8 GND_CKLK (power)

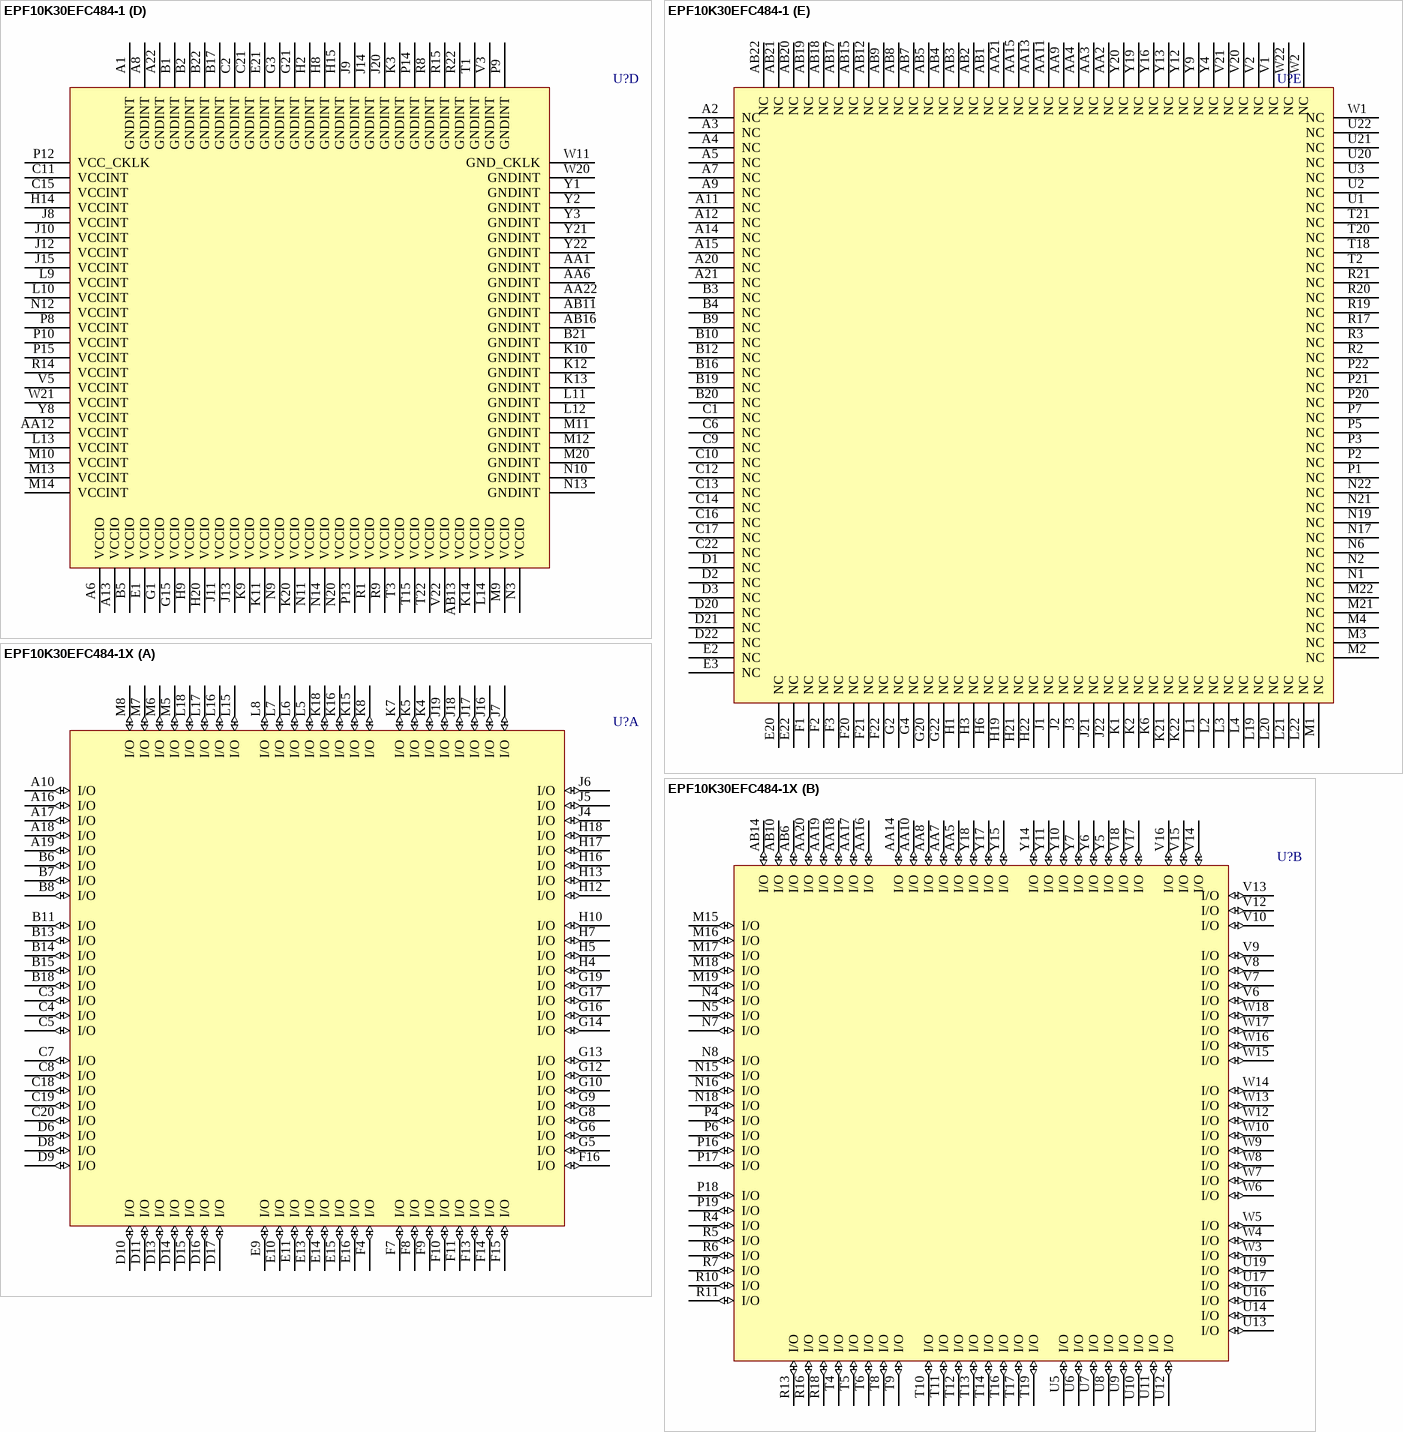
[diagram p60: symbols EPF10K30EFC484-1 to EPF10K30EFC484-1X]

## EPF10K30EFC484-1
designator U?
FLEX EPF10K30E 2.5V Embedded PLD, 220 User IO Pins, 484-Pin FBGA, Speed Grade 1, Commercial Grade; Published: 17-Jul-2002; LatestRevisionDate: 13-Apr-2006; LatestRevisionNote: IPC-7351 Footprint Added.; DatasheetVersion: ver2.5, Jan-2003; PackageVersion: ver16.0, Dec-2009; PackageReference: FBGA484; Publisher: Altium Limited; PackageDescription: 484-Ball FineLine Ball Grid Array (FBGA484) - Flip Chip; Code_JEDEC: MS-034-AAJ-1; Code_IPC: BGA100P22X22-484; ComponentLink1Description: Manufacturer Link; ComponentLink1URL: http://www.altera.com/products/devices/flex10k/f10-index.html; ComponentLink2Description: Datasheet; ComponentLink2URL: http://www.altera.com/literature/ds/dsf10ke.pdf
footprint FBGA484 (BGA, 484-Leads, Body 23x23mm, Pitch 1mm)
3D model EPF10K30E-FBGA484 (484-Ball FineLine Ball Grid Array (FBGA484) - Flip Chip)
part A pins: A10 I/O (io), A16 I/O (io), A17 I/O (io), A18 I/O (io), A19 I/O (io), B6 I/O (io), B7 I/O (io), B8 I/O (io), B11 I/O (io), B13 I/O (io), B14 I/O (io), B15 I/O (io), B18 I/O (io), C3 I/O (io), C4 I/O (io), C5 I/O (io), C7 I/O (io), C8 I/O (io), C18 I/O (io), C19 I/O (io), C20 I/O (io), D6 I/O (io), D8 I/O (io), D9 I/O (io), D10 I/O (io), D11 I/O (io), D13 I/O (io), D14 I/O (io), D15 I/O (io), D16 I/O (io), D17 I/O (io), E9 I/O (io), E10 I/O (io), E11 I/O (io), E13 I/O (io), E14 I/O (io), E15 I/O (io), E16 I/O (io), F4 I/O (io), F7 I/O (io), F8 I/O (io), F9 I/O (io), F10 I/O (io), F11 I/O (io), F13 I/O (io), F14 I/O (io), F15 I/O (io), F16 I/O (io), G5 I/O (io), G6 I/O (io), G8 I/O (io), G9 I/O (io), G10 I/O (io), G12 I/O (io), G13 I/O (io), G14 I/O (io), G16 I/O (io), G17 I/O (io), G19 I/O (io), H4 I/O (io), H5 I/O (io), H7 I/O (io), H10 I/O (io), H12 I/O (io), H13 I/O (io), H16 I/O (io), H17 I/O (io), H18 I/O (io), J4 I/O (io), J5 I/O (io), J6 I/O (io), J7 I/O (io), J16 I/O (io), J17 I/O (io), J18 I/O (io), J19 I/O (io), K4 I/O (io), K5 I/O (io), K7 I/O (io), K8 I/O (io), K15 I/O (io), K16 I/O (io), K18 I/O (io), L5 I/O (io), L6 I/O (io), L7 I/O (io), L8 I/O (io), L15 I/O (io), L16 I/O (io), L17 I/O (io), L18 I/O (io), M5 I/O (io), M6 I/O (io), M7 I/O (io), M8 I/O (io)
part B pins: AA5 I/O (io), AA7 I/O (io), AA8 I/O (io), AA10 I/O (io), AA14 I/O (io), AA16 I/O (io), AA17 I/O (io), AA18 I/O (io), AA19 I/O (io), AA20 I/O (io), AB6 I/O (io), AB10 I/O (io), AB14 I/O (io), M15 I/O (io), M16 I/O (io), M17 I/O (io), M18 I/O (io), M19 I/O (io), N4 I/O (io), N5 I/O (io), N7 I/O (io), N8 I/O (io), N15 I/O (io), N16 I/O (io), N18 I/O (io), P4 I/O (io), P6 I/O (io), P16 I/O (io), P17 I/O (io), P18 I/O (io), P19 I/O (io), R4 I/O (io), R5 I/O (io), R6 I/O (io), R7 I/O (io), R10 I/O (io), R11 I/O (io), R13 I/O (io), R16 I/O (io), R18 I/O (io), T4 I/O (io), T5 I/O (io), T6 I/O (io), T8 I/O (io), T9 I/O (io), T10 I/O (io), T11 I/O (io), T12 I/O (io), T13 I/O (io), T14 I/O (io), T16 I/O (io), T17 I/O (io), T19 I/O (io), U5 I/O (io), U6 I/O (io), U7 I/O (io), U8 I/O (io), U9 I/O (io), U10 I/O (io), U11 I/O (io), U12 I/O (io), U13 I/O (io), U14 I/O (io), U16 I/O (io), U17 I/O (io), U19 I/O (io), V6 I/O (io), V7 I/O (io), V8 I/O (io), V9 I/O (io), V10 I/O (io), V12 I/O (io), V13 I/O (io), V14 I/O (io), V15 I/O (io), V16 I/O (io), V17 I/O (io), V18 I/O (io), W3 I/O (io), W4 I/O (io), W5 I/O (io), W6 I/O (io), W7 I/O (io), W8 I/O (io), W9 I/O (io), W10 I/O (io), W12 I/O (io), W13 I/O (io), W14 I/O (io), W15 I/O (io), W16 I/O (io), W17 I/O (io), W18 I/O (io), Y5 I/O (io), Y6 I/O (io), Y7 I/O (io), Y10 I/O (io), Y11 I/O (io), Y14 I/O (io), Y15 I/O (io), Y17 I/O (io), Y18 I/O (io)
part C pins: D4 DATA0 (in), D5 DATA2 (io), D7 DATA5 (io), D12 CLK (in), D18 CS (io), D19 nCS (io), E4 nCE (in), E5 DCLK (in), E6 DATA1 (io), E7 DATA4 (io), E8 DATA7 (io), E12 INPUT (in), E17 nWS (io), E18 TCK (in), E19 nCEO (out), F5 TDI (in), F6 DATA3 (io), F12 DEV_OE (io), F17 nRS (io), F18 CONF_DONE (in), F19 TDO (out), G7 DATA6 (io), G11 DEV_CLRn (io), G18 CLKUSR (io), H11 INPUT (in), K17 RDYnBSY (io), K19 INIT_DONE (io), P11 CLK/GCLK1 (in), R12 INPUT (in), T7 nCONFIG (in), U4 MSEL0 (in), U15 LOCK (io), U18 TMS (in), V4 MSEL1 (in), V11 INPUT (in), V19 TRST (in), W19 nSTATUS (in)
part D pins: A1 GNDINT (power), A6 VCCIO (power), A8 GNDINT (power), A13 VCCIO (power), A22 GNDINT (power), AA1 GNDINT (power), AA6 GNDINT (power), AA12 VCCINT (power), AA22 GNDINT (power), AB11 GNDINT (power), AB13 VCCIO (power), AB16 GNDINT (power), B1 GNDINT (power), B2 GNDINT (power), B5 VCCIO (power), B17 GNDINT (power), B21 GNDINT (power), B22 GNDINT (power), C2 GNDINT (power), C11 VCCINT (power), C15 VCCINT (power), C21 GNDINT (power), E1 VCCIO (power), E21 GNDINT (power), G1 VCCIO (power), G3 GNDINT (power), G15 VCCIO (power), G21 GNDINT (power), H2 GNDINT (power), H8 GNDINT (power), H9 VCCIO (power), H14 VCCINT (power), H15 GNDINT (power), H20 VCCIO (power), J8 VCCINT (power), J9 GNDINT (power), J10 VCCINT (power), J11 VCCIO (power), J12 VCCINT (power), J13 VCCIO (power), J14 GNDINT (power), J15 VCCINT (power), J20 GNDINT (power), K3 GNDINT (power), K9 VCCIO (power), K10 GNDINT (power), K11 VCCIO (power), K12 GNDINT (power), K13 GNDINT (power), K14 VCCIO (power), K20 VCCIO (power), L9 VCCINT (power), L10 VCCINT (power), L11 GNDINT (power), L12 GNDINT (power), L13 VCCINT (power), L14 VCCIO (power), M9 VCCIO (power), M10 VCCINT (power), M11 GNDINT (power), M12 GNDINT (power), M13 VCCINT (power), M14 VCCINT (power), M20 GNDINT (power), N3 VCCIO (power), N9 VCCIO (power), N10 GNDINT (power), N11 VCCIO (power), N12 VCCINT (power), N13 GNDINT (power), N14 VCCIO (power), N20 VCCIO (power), P8 VCCINT (power), P9 GNDINT (power), P10 VCCINT (power), P12 VCC_CKLK (power), P13 VCCIO (power), P14 GNDINT (power), P15 VCCINT (power), R1 VCCIO (power), R8 GNDINT (power), R9 VCCIO (power), R14 VCCINT (power), R15 GNDINT (power), R22 GNDINT (power), T1 GNDINT (power), T3 VCCIO (power), T15 VCCIO (power), T22 VCCIO (power), V3 GNDINT (power), V5 VCCINT (power), V22 VCCIO (power), W11 GND_CKLK (power), W20 GNDINT (power), W21 VCCINT (power), Y1 GNDINT (power), Y2 GNDINT (power), Y3 GNDINT (power), Y8 VCCINT (power), Y21 GNDINT (power), Y22 GNDINT (power)
part E pins: A2 NC, A3 NC, A4 NC, A5 NC, A7 NC, A9 NC, A11 NC, A12 NC, A14 NC, A15 NC, A20 NC, A21 NC, AA2 NC, AA3 NC, AA4 NC, AA9 NC, AA11 NC, AA13 NC, AA15 NC, AA21 NC, AB1 NC, AB2 NC, AB3 NC, AB4 NC, AB5 NC, AB7 NC, AB8 NC, AB9 NC, AB12 NC, AB15 NC, AB17 NC, AB18 NC, AB19 NC, AB20 NC, AB21 NC, AB22 NC, B3 NC, B4 NC, B9 NC, B10 NC, B12 NC, B16 NC, B19 NC, B20 NC, C1 NC, C6 NC, C9 NC, C10 NC, C12 NC, C13 NC, C14 NC, C16 NC, C17 NC, C22 NC, D1 NC, D2 NC, D3 NC, D20 NC, D21 NC, D22 NC, E2 NC, E3 NC, E20 NC, E22 NC, F1 NC, F2 NC, F3 NC, F20 NC, F21 NC, F22 NC, G2 NC, G4 NC, G20 NC, G22 NC, H1 NC, H3 NC, H6 NC, H19 NC, H21 NC, H22 NC, J1 NC, J2 NC, J3 NC, J21 NC, J22 NC, K1 NC, K2 NC, K6 NC, K21 NC, K22 NC, L1 NC, L2 NC, L3 NC, L4 NC, L19 NC, L20 NC, L21 NC, L22 NC, M1 NC, M2 NC, M3 NC, M4 NC, M21 NC, M22 NC, N1 NC, N2 NC, N6 NC, N17 NC, N19 NC, N21 NC, N22 NC, P1 NC, P2 NC, P3 NC, P5 NC, P7 NC, P20 NC, P21 NC, P22 NC, R2 NC, R3 NC, R17 NC, R19 NC, R20 NC, R21 NC, T2 NC, T18 NC, T20 NC, T21 NC, U1 NC, U2 NC, U3 NC, U20 NC, U21 NC, U22 NC, V1 NC, V2 NC, V20 NC, V21 NC, W1 NC, W2 NC, W22 NC, Y4 NC, Y9 NC, Y12 NC, Y13 NC, Y16 NC, Y19 NC, Y20 NC

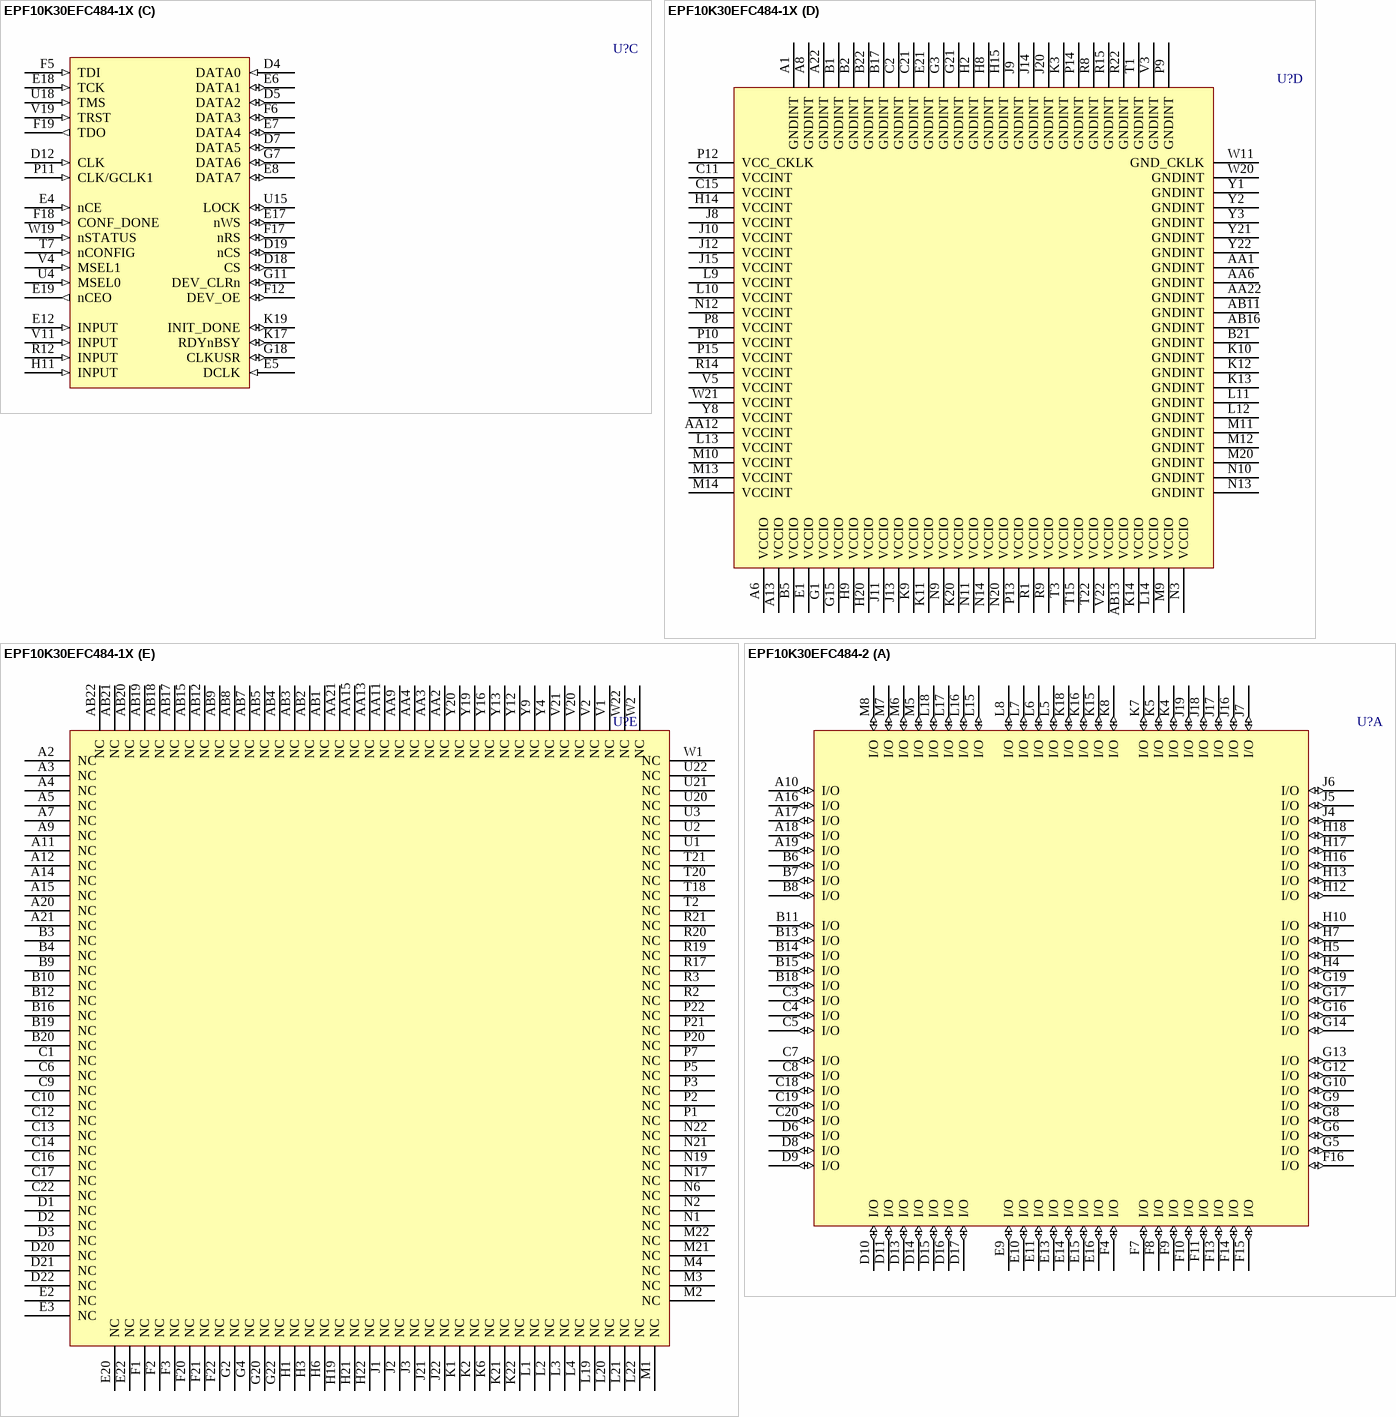
[diagram p61: symbols EPF10K30EFC484-1X to EPF10K30EFC484-2]

## EPF10K30EFC484-1X
designator U?
FLEX EPF10K30E 2.5V Embedded PLD, 220 User IO Pins, 484-Pin FBGA, Speed Grade 1, Commercial Grade; Published: 17-Jul-2002; LatestRevisionDate: 13-Apr-2006; LatestRevisionNote: IPC-7351 Footprint Added.; DatasheetVersion: ver2.5, Jan-2003; PackageVersion: ver16.0, Dec-2009; PackageReference: FBGA484; Publisher: Altium Limited; PackageDescription: 484-Ball FineLine Ball Grid Array (FBGA484) - Flip Chip; Code_JEDEC: MS-034-AAJ-1; Code_IPC: BGA100P22X22-484; ComponentLink1Description: Manufacturer Link; ComponentLink1URL: http://www.altera.com/products/devices/flex10k/f10-index.html; ComponentLink2Description: Datasheet; ComponentLink2URL: http://www.altera.com/literature/ds/dsf10ke.pdf
footprint FBGA484 (BGA, 484-Leads, Body 23x23mm, Pitch 1mm)
3D model EPF10K30E-FBGA484 (484-Ball FineLine Ball Grid Array (FBGA484) - Flip Chip)
part A pins: A10 I/O (io), A16 I/O (io), A17 I/O (io), A18 I/O (io), A19 I/O (io), B6 I/O (io), B7 I/O (io), B8 I/O (io), B11 I/O (io), B13 I/O (io), B14 I/O (io), B15 I/O (io), B18 I/O (io), C3 I/O (io), C4 I/O (io), C5 I/O (io), C7 I/O (io), C8 I/O (io), C18 I/O (io), C19 I/O (io), C20 I/O (io), D6 I/O (io), D8 I/O (io), D9 I/O (io), D10 I/O (io), D11 I/O (io), D13 I/O (io), D14 I/O (io), D15 I/O (io), D16 I/O (io), D17 I/O (io), E9 I/O (io), E10 I/O (io), E11 I/O (io), E13 I/O (io), E14 I/O (io), E15 I/O (io), E16 I/O (io), F4 I/O (io), F7 I/O (io), F8 I/O (io), F9 I/O (io), F10 I/O (io), F11 I/O (io), F13 I/O (io), F14 I/O (io), F15 I/O (io), F16 I/O (io), G5 I/O (io), G6 I/O (io), G8 I/O (io), G9 I/O (io), G10 I/O (io), G12 I/O (io), G13 I/O (io), G14 I/O (io), G16 I/O (io), G17 I/O (io), G19 I/O (io), H4 I/O (io), H5 I/O (io), H7 I/O (io), H10 I/O (io), H12 I/O (io), H13 I/O (io), H16 I/O (io), H17 I/O (io), H18 I/O (io), J4 I/O (io), J5 I/O (io), J6 I/O (io), J7 I/O (io), J16 I/O (io), J17 I/O (io), J18 I/O (io), J19 I/O (io), K4 I/O (io), K5 I/O (io), K7 I/O (io), K8 I/O (io), K15 I/O (io), K16 I/O (io), K18 I/O (io), L5 I/O (io), L6 I/O (io), L7 I/O (io), L8 I/O (io), L15 I/O (io), L16 I/O (io), L17 I/O (io), L18 I/O (io), M5 I/O (io), M6 I/O (io), M7 I/O (io), M8 I/O (io)
part B pins: AA5 I/O (io), AA7 I/O (io), AA8 I/O (io), AA10 I/O (io), AA14 I/O (io), AA16 I/O (io), AA17 I/O (io), AA18 I/O (io), AA19 I/O (io), AA20 I/O (io), AB6 I/O (io), AB10 I/O (io), AB14 I/O (io), M15 I/O (io), M16 I/O (io), M17 I/O (io), M18 I/O (io), M19 I/O (io), N4 I/O (io), N5 I/O (io), N7 I/O (io), N8 I/O (io), N15 I/O (io), N16 I/O (io), N18 I/O (io), P4 I/O (io), P6 I/O (io), P16 I/O (io), P17 I/O (io), P18 I/O (io), P19 I/O (io), R4 I/O (io), R5 I/O (io), R6 I/O (io), R7 I/O (io), R10 I/O (io), R11 I/O (io), R13 I/O (io), R16 I/O (io), R18 I/O (io), T4 I/O (io), T5 I/O (io), T6 I/O (io), T8 I/O (io), T9 I/O (io), T10 I/O (io), T11 I/O (io), T12 I/O (io), T13 I/O (io), T14 I/O (io), T16 I/O (io), T17 I/O (io), T19 I/O (io), U5 I/O (io), U6 I/O (io), U7 I/O (io), U8 I/O (io), U9 I/O (io), U10 I/O (io), U11 I/O (io), U12 I/O (io), U13 I/O (io), U14 I/O (io), U16 I/O (io), U17 I/O (io), U19 I/O (io), V6 I/O (io), V7 I/O (io), V8 I/O (io), V9 I/O (io), V10 I/O (io), V12 I/O (io), V13 I/O (io), V14 I/O (io), V15 I/O (io), V16 I/O (io), V17 I/O (io), V18 I/O (io), W3 I/O (io), W4 I/O (io), W5 I/O (io), W6 I/O (io), W7 I/O (io), W8 I/O (io), W9 I/O (io), W10 I/O (io), W12 I/O (io), W13 I/O (io), W14 I/O (io), W15 I/O (io), W16 I/O (io), W17 I/O (io), W18 I/O (io), Y5 I/O (io), Y6 I/O (io), Y7 I/O (io), Y10 I/O (io), Y11 I/O (io), Y14 I/O (io), Y15 I/O (io), Y17 I/O (io), Y18 I/O (io)
part C pins: D4 DATA0 (in), D5 DATA2 (io), D7 DATA5 (io), D12 CLK (in), D18 CS (io), D19 nCS (io), E4 nCE (in), E5 DCLK (in), E6 DATA1 (io), E7 DATA4 (io), E8 DATA7 (io), E12 INPUT (in), E17 nWS (io), E18 TCK (in), E19 nCEO (out), F5 TDI (in), F6 DATA3 (io), F12 DEV_OE (io), F17 nRS (io), F18 CONF_DONE (in), F19 TDO (out), G7 DATA6 (io), G11 DEV_CLRn (io), G18 CLKUSR (io), H11 INPUT (in), K17 RDYnBSY (io), K19 INIT_DONE (io), P11 CLK/GCLK1 (in), R12 INPUT (in), T7 nCONFIG (in), U4 MSEL0 (in), U15 LOCK (io), U18 TMS (in), V4 MSEL1 (in), V11 INPUT (in), V19 TRST (in), W19 nSTATUS (in)
part D pins: A1 GNDINT (power), A6 VCCIO (power), A8 GNDINT (power), A13 VCCIO (power), A22 GNDINT (power), AA1 GNDINT (power), AA6 GNDINT (power), AA12 VCCINT (power), AA22 GNDINT (power), AB11 GNDINT (power), AB13 VCCIO (power), AB16 GNDINT (power), B1 GNDINT (power), B2 GNDINT (power), B5 VCCIO (power), B17 GNDINT (power), B21 GNDINT (power), B22 GNDINT (power), C2 GNDINT (power), C11 VCCINT (power), C15 VCCINT (power), C21 GNDINT (power), E1 VCCIO (power), E21 GNDINT (power), G1 VCCIO (power), G3 GNDINT (power), G15 VCCIO (power), G21 GNDINT (power), H2 GNDINT (power), H8 GNDINT (power), H9 VCCIO (power), H14 VCCINT (power), H15 GNDINT (power), H20 VCCIO (power), J8 VCCINT (power), J9 GNDINT (power), J10 VCCINT (power), J11 VCCIO (power), J12 VCCINT (power), J13 VCCIO (power), J14 GNDINT (power), J15 VCCINT (power), J20 GNDINT (power), K3 GNDINT (power), K9 VCCIO (power), K10 GNDINT (power), K11 VCCIO (power), K12 GNDINT (power), K13 GNDINT (power), K14 VCCIO (power), K20 VCCIO (power), L9 VCCINT (power), L10 VCCINT (power), L11 GNDINT (power), L12 GNDINT (power), L13 VCCINT (power), L14 VCCIO (power), M9 VCCIO (power), M10 VCCINT (power), M11 GNDINT (power), M12 GNDINT (power), M13 VCCINT (power), M14 VCCINT (power), M20 GNDINT (power), N3 VCCIO (power), N9 VCCIO (power), N10 GNDINT (power), N11 VCCIO (power), N12 VCCINT (power), N13 GNDINT (power), N14 VCCIO (power), N20 VCCIO (power), P8 VCCINT (power), P9 GNDINT (power), P10 VCCINT (power), P12 VCC_CKLK (power), P13 VCCIO (power), P14 GNDINT (power), P15 VCCINT (power), R1 VCCIO (power), R8 GNDINT (power), R9 VCCIO (power), R14 VCCINT (power), R15 GNDINT (power), R22 GNDINT (power), T1 GNDINT (power), T3 VCCIO (power), T15 VCCIO (power), T22 VCCIO (power), V3 GNDINT (power), V5 VCCINT (power), V22 VCCIO (power), W11 GND_CKLK (power), W20 GNDINT (power), W21 VCCINT (power), Y1 GNDINT (power), Y2 GNDINT (power), Y3 GNDINT (power), Y8 VCCINT (power), Y21 GNDINT (power), Y22 GNDINT (power)
part E pins: A2 NC, A3 NC, A4 NC, A5 NC, A7 NC, A9 NC, A11 NC, A12 NC, A14 NC, A15 NC, A20 NC, A21 NC, AA2 NC, AA3 NC, AA4 NC, AA9 NC, AA11 NC, AA13 NC, AA15 NC, AA21 NC, AB1 NC, AB2 NC, AB3 NC, AB4 NC, AB5 NC, AB7 NC, AB8 NC, AB9 NC, AB12 NC, AB15 NC, AB17 NC, AB18 NC, AB19 NC, AB20 NC, AB21 NC, AB22 NC, B3 NC, B4 NC, B9 NC, B10 NC, B12 NC, B16 NC, B19 NC, B20 NC, C1 NC, C6 NC, C9 NC, C10 NC, C12 NC, C13 NC, C14 NC, C16 NC, C17 NC, C22 NC, D1 NC, D2 NC, D3 NC, D20 NC, D21 NC, D22 NC, E2 NC, E3 NC, E20 NC, E22 NC, F1 NC, F2 NC, F3 NC, F20 NC, F21 NC, F22 NC, G2 NC, G4 NC, G20 NC, G22 NC, H1 NC, H3 NC, H6 NC, H19 NC, H21 NC, H22 NC, J1 NC, J2 NC, J3 NC, J21 NC, J22 NC, K1 NC, K2 NC, K6 NC, K21 NC, K22 NC, L1 NC, L2 NC, L3 NC, L4 NC, L19 NC, L20 NC, L21 NC, L22 NC, M1 NC, M2 NC, M3 NC, M4 NC, M21 NC, M22 NC, N1 NC, N2 NC, N6 NC, N17 NC, N19 NC, N21 NC, N22 NC, P1 NC, P2 NC, P3 NC, P5 NC, P7 NC, P20 NC, P21 NC, P22 NC, R2 NC, R3 NC, R17 NC, R19 NC, R20 NC, R21 NC, T2 NC, T18 NC, T20 NC, T21 NC, U1 NC, U2 NC, U3 NC, U20 NC, U21 NC, U22 NC, V1 NC, V2 NC, V20 NC, V21 NC, W1 NC, W2 NC, W22 NC, Y4 NC, Y9 NC, Y12 NC, Y13 NC, Y16 NC, Y19 NC, Y20 NC

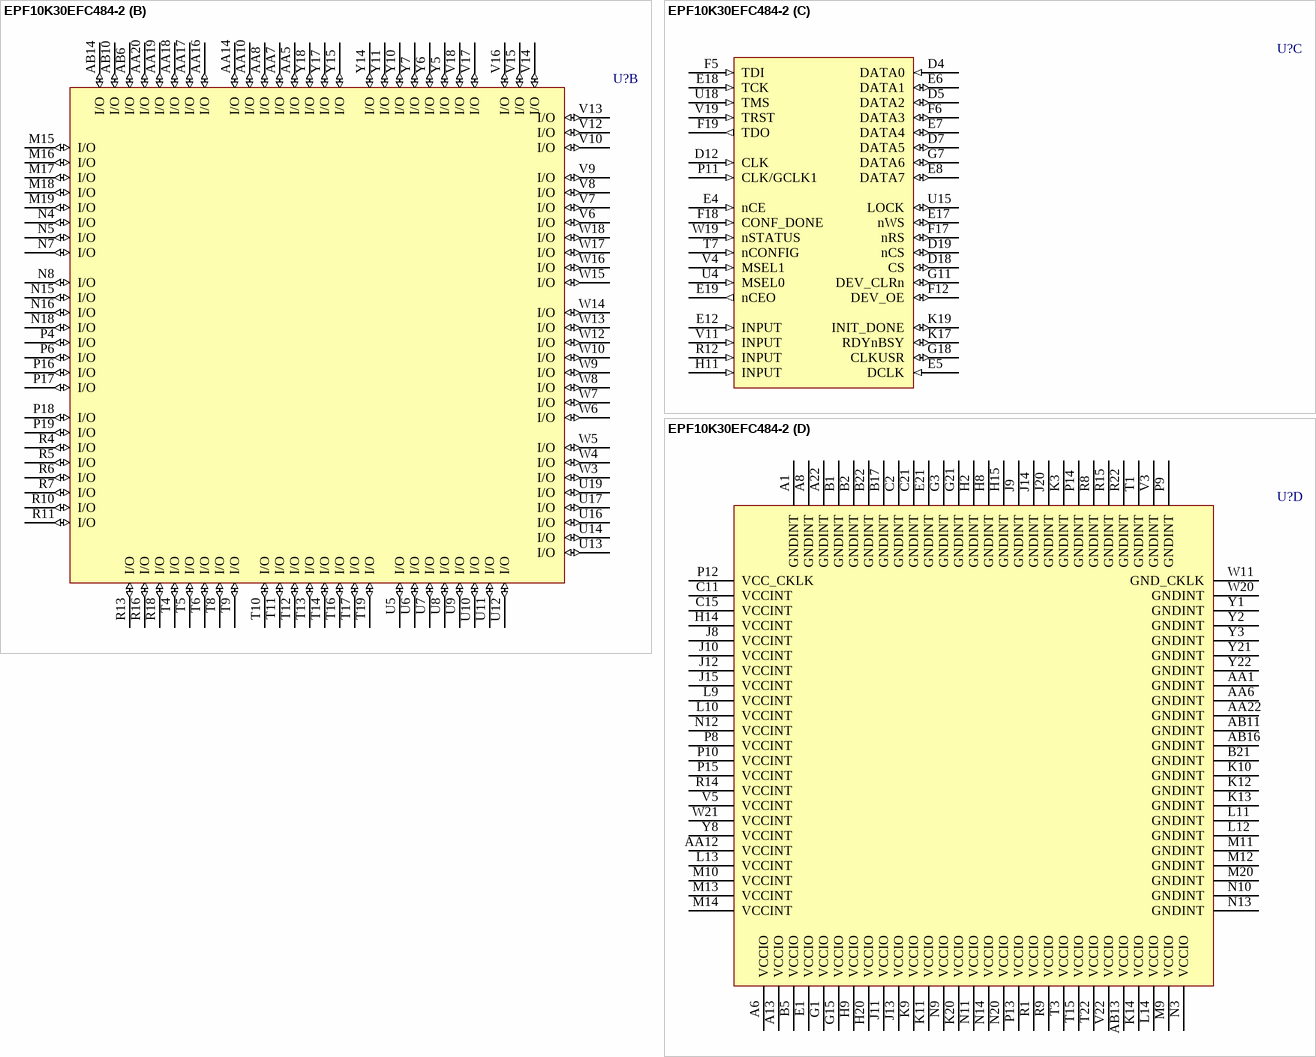
[diagram p62: symbol EPF10K30EFC484-2]

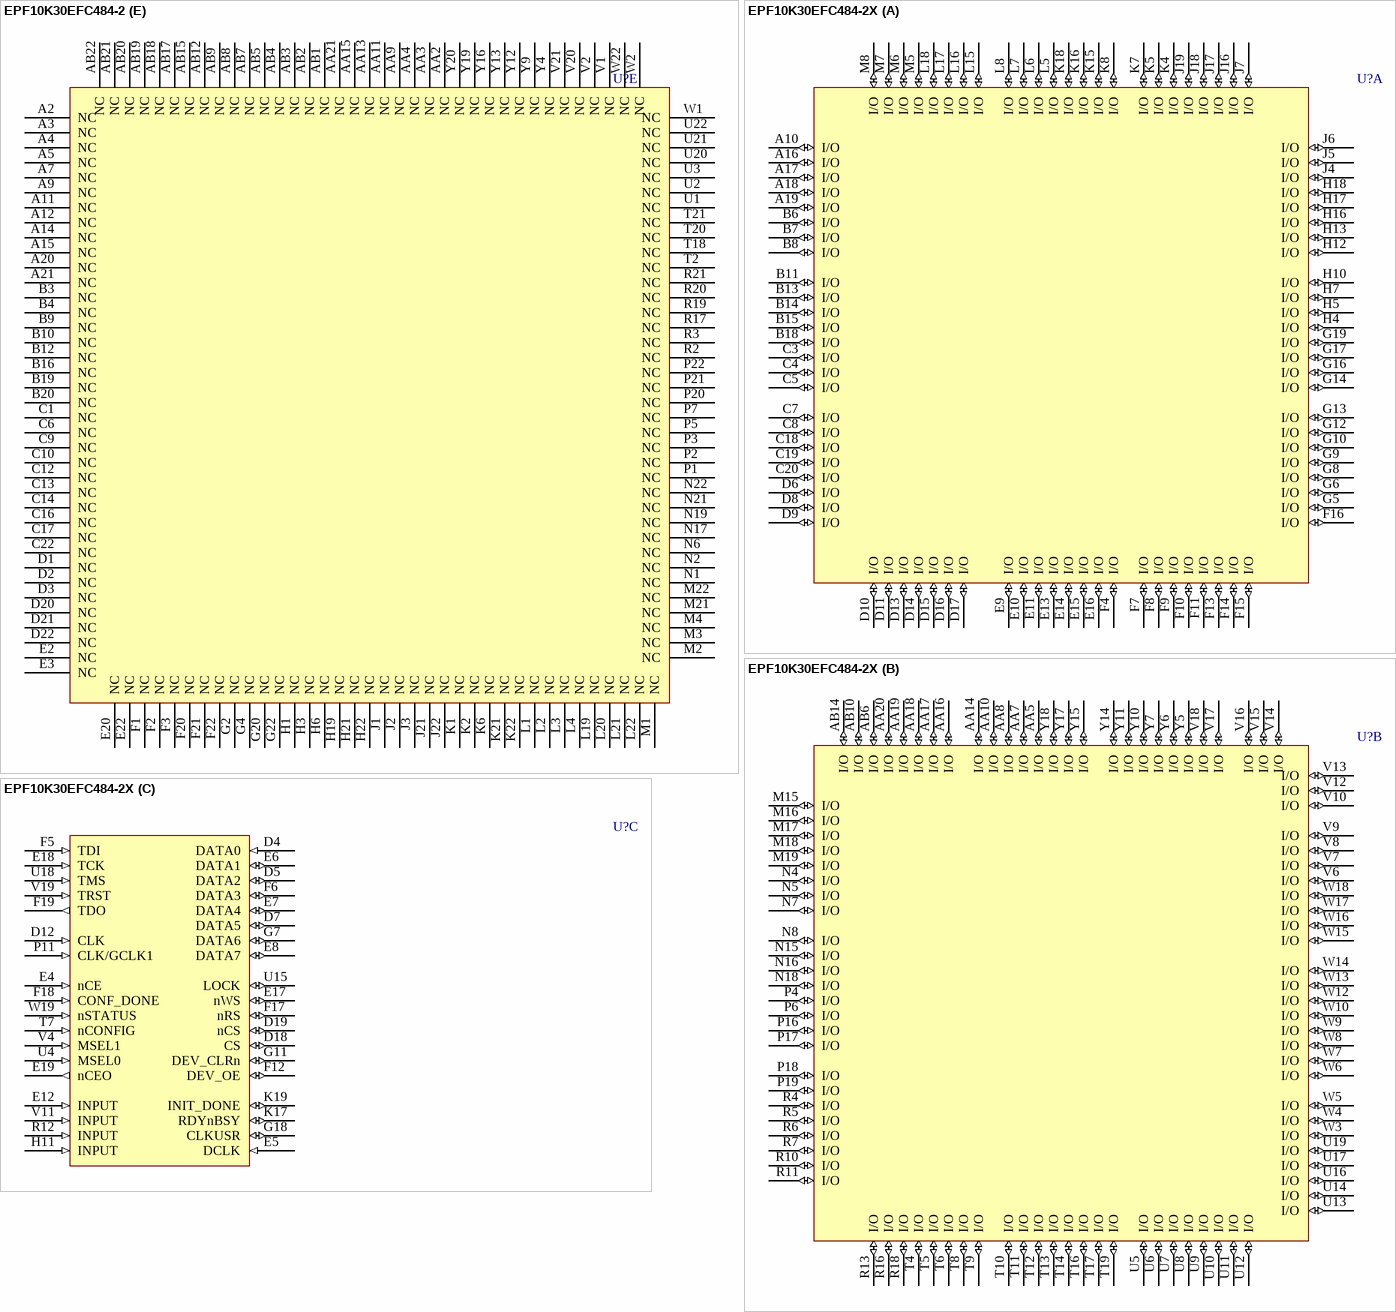
[diagram p63: symbols EPF10K30EFC484-2 to EPF10K30EFC484-2X]